# Altium schematic symbol library BigChips.SchLib: 34 symbols (part 1 of 2)
Pins are listed as number, name and electrical type; pins without a type are passive.

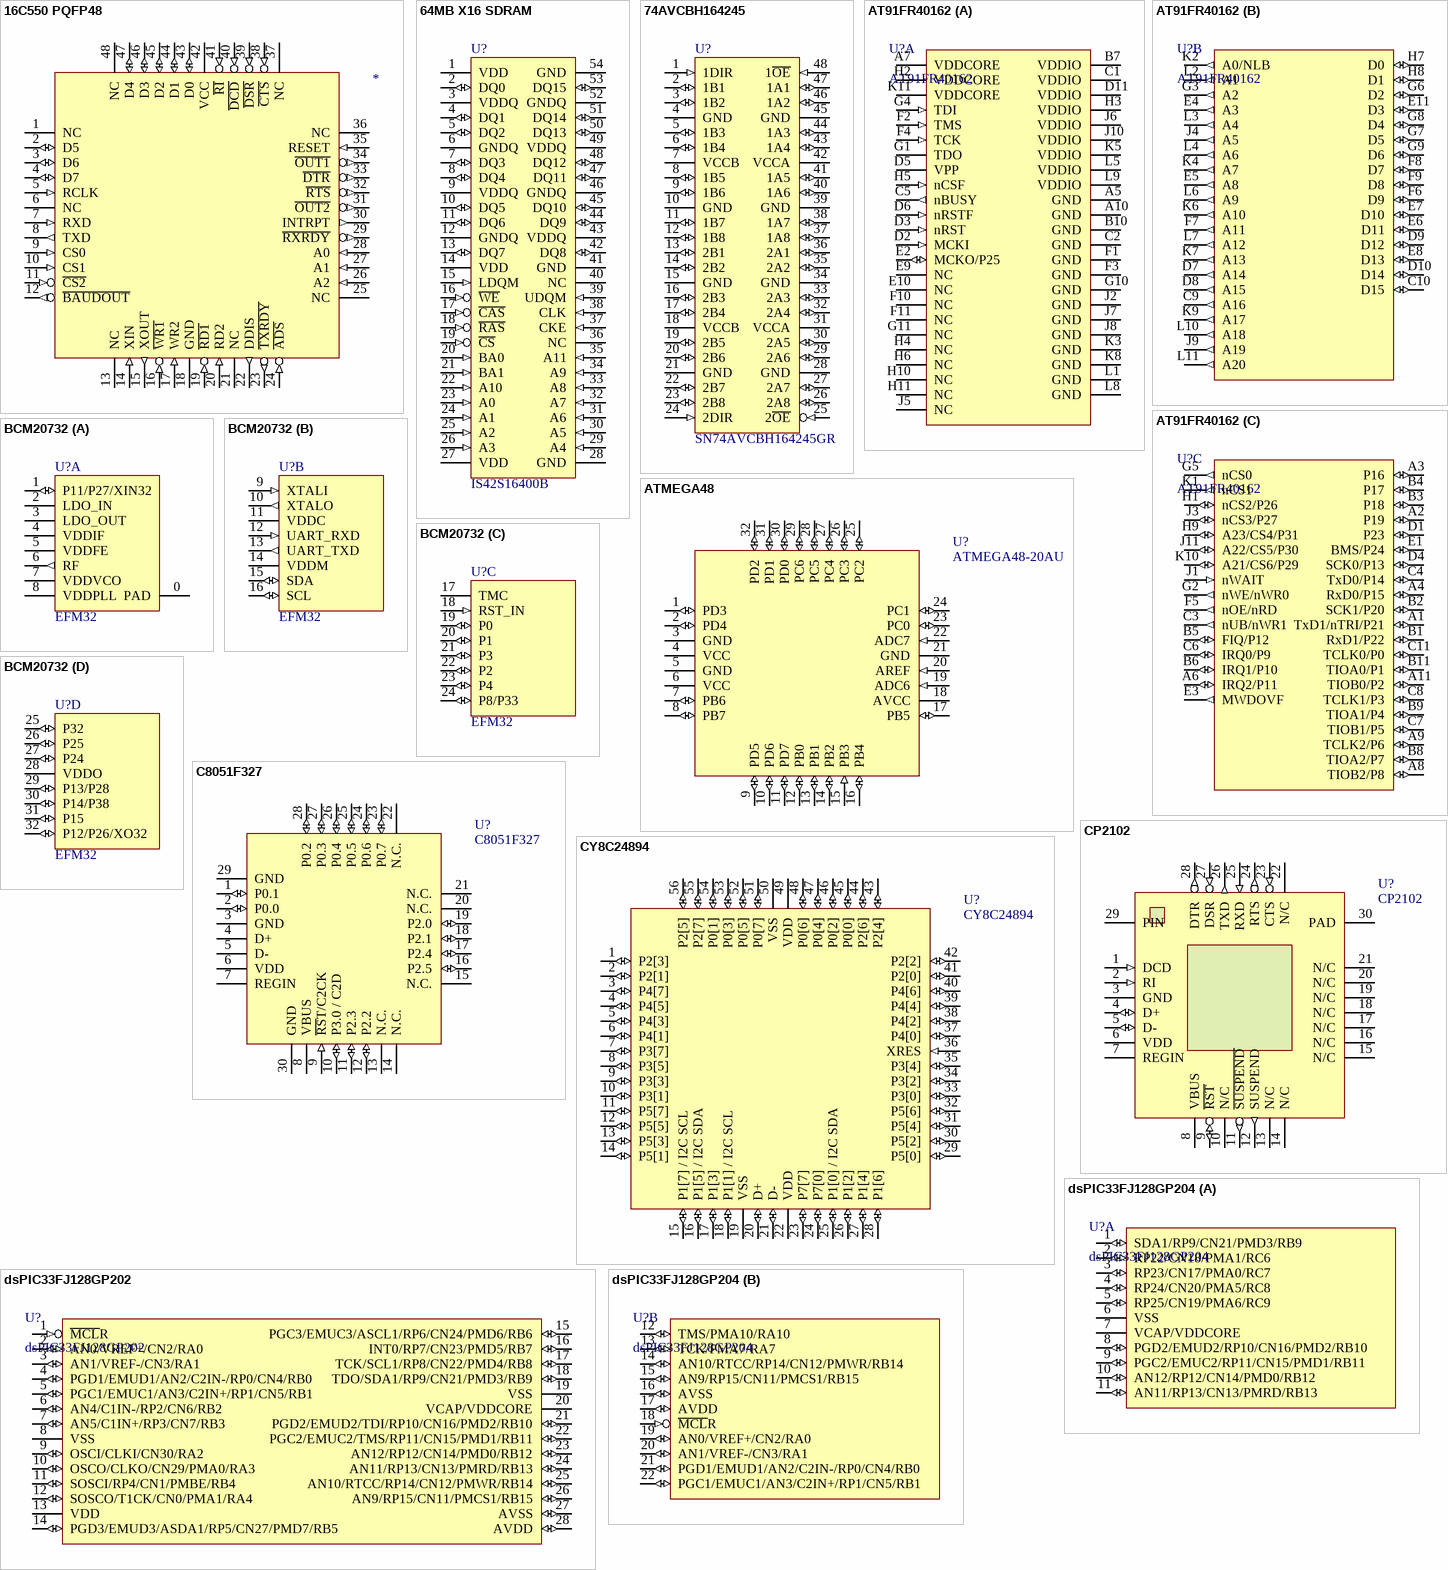
[diagram p0: symbols 16C550 PQFP48 to dsPIC33FJ128GP204]

## 16C550 PQFP48
designator ?
pins: 1 NC, 2 D5 (io), 3 D6 (io), 4 D7 (io), 5 RCLK (in), 6 NC, 7 RXD (in), 8 TXD (out), 9 CS0 (in), 10 CS1 (in), 11 ~{CS2} (in), 12 ~{BAUDOUT} (out), 13 NC, 14 XIN (in), 15 XOUT (out), 16 ~{WR1} (in), 17 WR2 (in), 18 GND (power), 19 ~{RD1} (in), 20 RD2 (in), 21 NC, 22 DDIS (out), 23 ~{TXRDY} (out), 24 ~{ADS} (in), 25 NC, 26 A2 (in), 27 A1 (in), 28 A0 (in), 29 ~{RXRDY} (out), 30 INTRPT (out), 31 ~{OUT2} (out), 32 ~{RTS} (out), 33 ~{DTR} (out), 34 ~{OUT1} (out), 35 RESET (in), 36 NC, 37 NC, 38 ~{CTS} (in), 39 ~{DSR} (in), 40 ~{DCD} (in), 41 ~{RI} (in), 42 VCC (power), 43 D0 (io), 44 D1 (io), 45 D2 (io), 46 D3 (io), 47 D4 (io), 48 NC

## 64MB X16 SDRAM
designator U?, comment IS42S16400B
PARTNO: CHP-NEW; VALUE: IS42S16400B
pins: 1 VDD (power), 2 DQ0 (io), 3 VDDQ (power), 4 DQ1 (io), 5 DQ2 (io), 6 GNDQ (power), 7 DQ3 (io), 8 DQ4 (io), 9 VDDQ (power), 10 DQ5 (io), 11 DQ6 (io), 12 GNDQ (power), 13 DQ7 (io), 14 VDD (power), 15 LDQM (in), 16 ~{WE} (in), 17 ~{CAS} (in), 18 ~{RAS} (in), 19 ~{CS} (in), 20 BA0 (in), 21 BA1 (in), 22 A10 (in), 23 A0 (in), 24 A1 (in), 25 A2 (in), 26 A3 (in), 27 VDD (power), 28 GND (power), 29 A4 (in), 30 A5 (in), 31 A6 (in), 32 A7 (in), 33 A8 (in), 34 A9 (in), 35 A11 (in), 36 NC, 37 CKE (in), 38 CLK (in), 39 UDQM (in), 40 NC, 41 GND (power), 42 DQ8 (io), 43 VDDQ (power), 44 DQ9 (io), 45 DQ10 (io), 46 GNDQ (power), 47 DQ11 (io), 48 DQ12 (io), 49 VDDQ (power), 50 DQ13 (io), 51 DQ14 (io), 52 GNDQ (power), 53 DQ15 (io), 54 GND (power)

## 74AVCBH164245
designator U?, comment SN74AVCBH164245GR
Dual Voltage Buffer; PARTNO: SN74AVCBH164245GR; VALUE: SN74AVCBH164245GR
footprint TSSOP48 (Footprint not found)
pins: 1 1DIR (in), 2 1B1 (io), 3 1B2 (io), 4 GND (power), 5 1B3 (io), 6 1B4 (io), 7 VCCB (power), 8 1B5 (io), 9 1B6 (io), 10 GND (power), 11 1B7 (io), 12 1B8 (io), 13 2B1 (io), 14 2B2 (io), 15 GND (power), 16 2B3 (io), 17 2B4 (io), 18 VCCB (power), 19 2B5 (io), 20 2B6 (io), 21 GND (power), 22 2B7 (io), 23 2B8 (io), 24 2DIR (in), 25 2~{OE} (in), 26 2A8 (io), 27 2A7 (io), 28 GND (power), 29 2A6 (io), 30 2A5 (io), 31 VCCA (power), 32 2A4 (io), 33 2A3 (io), 34 GND (power), 35 2A2 (io), 36 2A1 (io), 37 1A8 (io), 38 1A7 (io), 39 GND (power), 40 1A6 (io), 41 1A5 (io), 42 VCCA (power), 43 1A4 (io), 44 1A3 (io), 45 GND (power), 46 1A2 (io), 47 1A1 (io), 48 1~{OE} (in)

## AT91FR40162
designator U?
PARTNO: AT91FR40162S-CJ; VALUE: AT91FR40162; DK: AT91FR40162S-CJ-ND
footprint BGA121 (Footprint not found)
part A pins: A5 GND (power), A7 VDDCORE (power), A10 GND (power), B7 VDDIO (power), B10 GND (power), C1 VDDIO (power), C2 GND (power), C5 nBUSY (out), D2 MCKI (in), D3 nRST (in), D5 VPP (power), D6 nRSTF (in), D11 VDDIO (power), E2 MCKO/P25 (io), E9 NC, E10 NC, F1 GND (power), F2 TMS (in), F3 GND (power), F4 TCK (in), F10 NC, F11 NC, G1 TDO (oc), G4 TDI (in), G10 GND (power), G11 NC, H2 VDDCORE (power), H3 VDDIO (power), H4 NC, H5 nCSF (in), H6 NC, H10 NC, H11 NC, J2 GND (power), J5 NC, J6 VDDIO (power), J7 GND (power), J8 GND (power), J10 VDDIO (power), K3 GND (power), K5 VDDIO (power), K8 GND (power), K11 VDDCORE (power), L1 GND (power), L5 VDDIO (power), L8 GND (power), L9 VDDIO (power)
part B pins: C9 A16 (out), C10 D15 (io), D7 A14 (out), D8 A15 (out), D9 D12 (io), D10 D14 (io), E4 A3 (out), E5 A8 (out), E6 D11 (io), E7 D10 (io), E8 D13 (io), E11 D3 (io), F6 D9 (io), F7 A11 (out), F8 D7 (io), F9 D8 (io), G3 A2 (out), G6 D2 (io), G7 D5 (io), G8 D4 (io), G9 D6 (io), H7 D0 (io), H8 D1 (io), J4 A5 (out), J9 A19 (out), K2 A0/NLB (out), K4 A7 (out), K6 A10 (out), K7 A13 (out), K9 A17 (out), L2 A1 (out), L3 A4 (out), L4 A6 (out), L6 A9 (out), L7 A12 (out), L10 A18 (out), L11 A20 (out)
part C pins: A1 TxD1/nTRI/P21 (io), A2 P19 (io), A3 P16 (io), A4 RxD0/P15 (io), A6 IRQ2/P11 (io), A8 TIOB2/P8 (io), A9 TCLK2/P6 (io), A11 TIOB0/P2 (io), B1 RxD1/P22 (io), B2 SCK1/P20 (io), B3 P18 (io), B4 P17 (io), B5 FIQ/P12 (io), B6 IRQ1/P10 (io), B8 TIOA2/P7 (io), B9 TIOA1/P4 (io), B11 TIOA0/P1 (io), C3 nUB/nWR1 (out), C4 TxD0/P14 (io), C6 IRQ0/P9 (io), C7 TIOB1/P5 (io), C8 TCLK1/P3 (io), C11 TCLK0/P0 (io), D1 P23 (io), D4 SCK0/P13 (io), E1 BMS/P24 (io), E3 MWDOVF (out), F5 nOE/nRD (out), G2 nWE/nWR0 (out), G5 nCS0 (out), H1 nCS2/P26 (io), H9 A23/CS4/P31 (io), J1 nWAIT (in), J3 nCS3/P27 (io), J11 A22/CS5/P30 (io), K1 nCS1 (out), K10 A21/CS6/P29 (io)

## ATMEGA48
designator U?, comment ATMEGA48-20AU
ATMEGA48 CPU; PARTNO: ATMEGA48-20AU; VALUE: ATMEGA48-20AU
footprint TQFP32_010907 (Footprint not found)
pins: 1 PD3 (io), 2 PD4 (io), 3 GND (power), 4 VCC (power), 5 GND (power), 6 VCC (power), 7 PB6 (io), 8 PB7 (io), 9 PD5 (io), 10 PD6 (io), 11 PD7 (io), 12 PB0 (io), 13 PB1 (io), 14 PB2 (io), 15 PB3 (in), 16 PB4 (io), 17 PB5 (io), 18 AVCC (power), 19 ADC6 (in), 20 AREF (in), 21 GND (power), 22 ADC7 (in), 23 PC0 (io), 24 PC1 (io), 25 PC2 (io), 26 PC3 (io), 27 PC4 (io), 28 PC5 (io), 29 PC6 (io), 30 PD0 (io), 31 PD1 (io), 32 PD2 (io)

## BCM20732
designator U?, comment EFM32
VALUE: EFM32; DK: ----
footprint QFN32_033006 (SMT)
part A pins: 0 PAD (power) "GND", 1 P11/P27/XIN32 (io) "I/O", 2 LDO_IN (power) "Power", 3 LDO_OUT (power) "Power", 4 VDDIF (power) "VPLL", 5 VDDFE (power) "Power", 6 RF (out) "Output", 7 VDDVCO (power) "Power", 8 VDDPLL (power) "Power"
part B pins: 9 XTALI (in) "Crystal", 10 XTALO (out) "Crystal", 11 VDDC (power) "Power", 12 UART_RXD (in) "Rx In", 13 UART_TXD (out) "Out", 14 VDDM (power) "Power", 15 SDA (io) "I/O", 16 SCL (io) "I/O"
part C pins: 17 TMC (power) "Test", 18 RST_IN (in) "Reset", 19 P0 (io) "I/O", 20 P1 (io) "I/O", 21 P3 (io) "I/O", 22 P2 (io) "I/O", 23 P4 (io) "I/O", 24 P8/P33 (io) "I/O"
part D pins: 25 P32 (io) "I/O", 26 P25 (io) "I/O", 27 P24 (io) "I/O", 28 VDDO (power) "Power", 29 P13/P28 (io) "I/O", 30 P14/P38 (io) "I/O", 31 P15 (io) "I/O", 32 P12/P26/XO32 (io) "I/O"

## C8051F327
designator U?
SMT; PARTNO: C8051F327; VALUE: C8051F327
footprint QFN28B_xxxxxx (Footprint not found)
pins: 1 P0.1 (io) "Port0 Bit1", 2 P0.0 (io) "Port0 Bit0", 3 GND (power) "Ground", 4 D+ "USB D+", 5 D- "USB D-", 6 VDD (power) "3.3V Regulator Out", 7 REGIN (power) "+5V In", 8 VBUS (power) "USB V+", 9 ~{RS}T/C2CK (in) "Reset / Program Clock", 10 P3.0 / C2D (io) "Port3 Bit0 / Program Data", 11 P2.3 (io) "Port2 Bit3", 12 P2.2 (io) "Port2 Bit2", 13 N.C., 14 N.C., 15 N.C., 16 P2.5 (io) "Port2 Bit5", 17 P2.4 (io) "Port2 Bit4", 18 P2.1 (io) "Port2 Bit1", 19 P2.0 (io) "Port2 Bit0", 20 N.C., 21 N.C., 22 N.C., 23 P0.7 (io) "Port0 Bit7", 24 P0.6 (io) "Port0 Bit6", 25 P0.5 (io) "Port0 Bit5", 26 P0.4 (io) "Port0 Bit4", 27 P0.3 (io) "Port0 Bit3", 28 P0.2 (io) "Port0 Bit2", 29 GND (power) "Reference Pin", 30 GND (power) "HeatSink Pad"

## CP2102
designator U?
PARTNO: CP2102; VALUE: CP2102
footprint QFN28_2_110906 (Footprint not found)
pins: 1 DCD (in), 2 RI (in), 3 GND (power), 4 D+ (io), 5 D- (io), 6 VDD (power), 7 REGIN (power), 8 VBUS (power), 9 ~{RST} (io), 10 N/C, 11 ~{SUSPEND} (out), 12 SUSPEND (out), 13 N/C, 14 N/C, 15 N/C, 16 N/C, 17 N/C, 18 N/C, 19 N/C, 20 N/C, 21 N/C, 22 N/C, 23 CTS (in), 24 RTS (out), 25 RXD (in), 26 TXD (out), 27 DSR (in), 28 DTR (out), 29 PIN (power), 30 PAD (power)

## CY8C24894
designator U?
PARTNO: CY8C24894; VALUE: CY8C24894
footprint DFN56 (Footprint not found)
pins: 1 P2[3] (io) "Analog/Digital I/O", 2 P2[1] (io) "Analog/Digital I/O", 3 P4[7] (io) "Digital I/O", 4 P4[5] (io) "Digital I/O", 5 P4[3] (io) "Digital I/O", 6 P4[1] (io) "Digital I/O", 7 P3[7] (io) "Digital I/O", 8 P3[5] (io) "Digital I/O", 9 P3[3] (io) "Digital I/O", 10 P3[1] (io) "Digital I/O", 11 P5[7] (io) "Digital I/O", 12 P5[5] (io) "Digital I/O", 13 P5[3] (io) "Digital I/O", 14 P5[1] (io) "Digital I/O", 15 P1[7] / I2C SCL (io) "Digital I/O", 16 P1[5] / I2C SDA (io) "Digital I/O", 17 P1[3] (io) "Digital I/O", 18 P1[1] / I2C SCL (io) "Digital I/O", 19 VSS (power) "GND", 20 D+ (io) "USB D+", 21 D- (io) "USB D-", 22 VDD (power) "V+", 23 P7[7] (io) "Digital I/O", 24 P7[0] (io) "Digital I/O", 25 P1[0] / I2C SDA (io) "Digital I/O", 26 P1[2] (io) "Digital I/O", 27 P1[4] (io) "Digital I/O", 28 P1[6] (io) "Digital I/O", 29 P5[0] (io) "Digital I/O", 30 P5[2] (io) "Digital I/O", 31 P5[4] (io) "Digital I/O", 32 P5[6] (io) "Digital I/O", 33 P3[0] (io) "Digital I/O", 34 P3[2] (io) "Digital I/O", 35 P3[4] (io) "Digital I/O", 36 XRES (in) "Reset", 37 P4[0] (io) "Digital I/O", 38 P4[2] (io) "Digital I/O", 39 P4[4] (io) "Digital I/O", 40 P4[6] (io) "Digital I/O", 41 P2[0] (io) "Digital I/O", 42 P2[2] (io) "Digital I/O", 43 P2[4] (io) "Digital I/O", 44 P2[6] (io) "Digital I/O", 45 P0[0] (io) "Analog / Digital I/O", 46 P0[2] (io) "Analog / Digital I/O", 47 P0[4] (io) "Analog / Digital I/O", 48 P0[6] (io) "Analog / Digital I/O", 49 VDD (power) "V+", 50 VSS (power) "GND", 51 P0[7] (io) "Analog / Digital I/O", 52 P0[5] (io) "Analog / Digital I/O", 53 P0[3] (io) "Analog / Digital I/O", 54 P0[1] (io) "Analog / Digital I/O", 55 P2[7] (io) "Digital I/O", 56 P2[5] (io) "Digital I/O"

## dsPIC33FJ128GP202
designator U?
PARTNO: dsPIC33FJ128GP202-I/SO; VALUE: dsPIC33FJ128GP202; DK: N/A
footprint SO28_030205 (SMT)
pins: 1 ~{MCL}R (in) "Reset", 2 AN0/VREF+/CN2/RA0 (io) "Port", 3 AN1/VREF-/CN3/RA1 (io) "Port", 4 PGD1/EMUD1/AN2/C2IN-/RP0/CN4/RB0 (io) "Port", 5 PGC1/EMUC1/AN3/C2IN+/RP1/CN5/RB1 (io) "Port", 6 AN4/C1IN-/RP2/CN6/RB2 (io) "Port", 7 AN5/C1IN+/RP3/CN7/RB3   (io) "Port", 8 VSS   (power) "GND", 9 OSCI/CLKI/CN30/RA2 (io) "Port", 10 OSCO/CLKO/CN29/PMA0/RA3 (io) "Port", 11 SOSCI/RP4/CN1/PMBE/RB4 (io) "Port", 12 SOSCO/T1CK/CN0/PMA1/RA4 (io) "Port", 13 VDD (power), 14 PGD3/EMUD3/ASDA1/RP5/CN27/PMD7/RB5 (io) "Port", 15 PGC3/EMUC3/ASCL1/RP6/CN24/PMD6/RB6 (io) "Port", 16 INT0/RP7/CN23/PMD5/RB7 (io) "Port", 17 TCK/SCL1/RP8/CN22/PMD4/RB8 (io) "Port", 18 TDO/SDA1/RP9/CN21/PMD3/RB9 (io) "Port", 19 VSS (power) "GND", 20 VCAP/VDDCORE "FILTER", 21 PGD2/EMUD2/TDI/RP10/CN16/PMD2/RB10 (io) "Port", 22 PGC2/EMUC2/TMS/RP11/CN15/PMD1/RB11 (io) "Port", 23 AN12/RP12/CN14/PMD0/RB12 (io) "Port", 24 AN11/RP13/CN13/PMRD/RB13 (io) "Port", 25 AN10/RTCC/RP14/CN12/PMWR/RB14 (io) "Port", 26 AN9/RP15/CN11/PMCS1/RB15 (io) "Port", 27 AVSS (io) "Port", 28 AVDD (io) "Port"

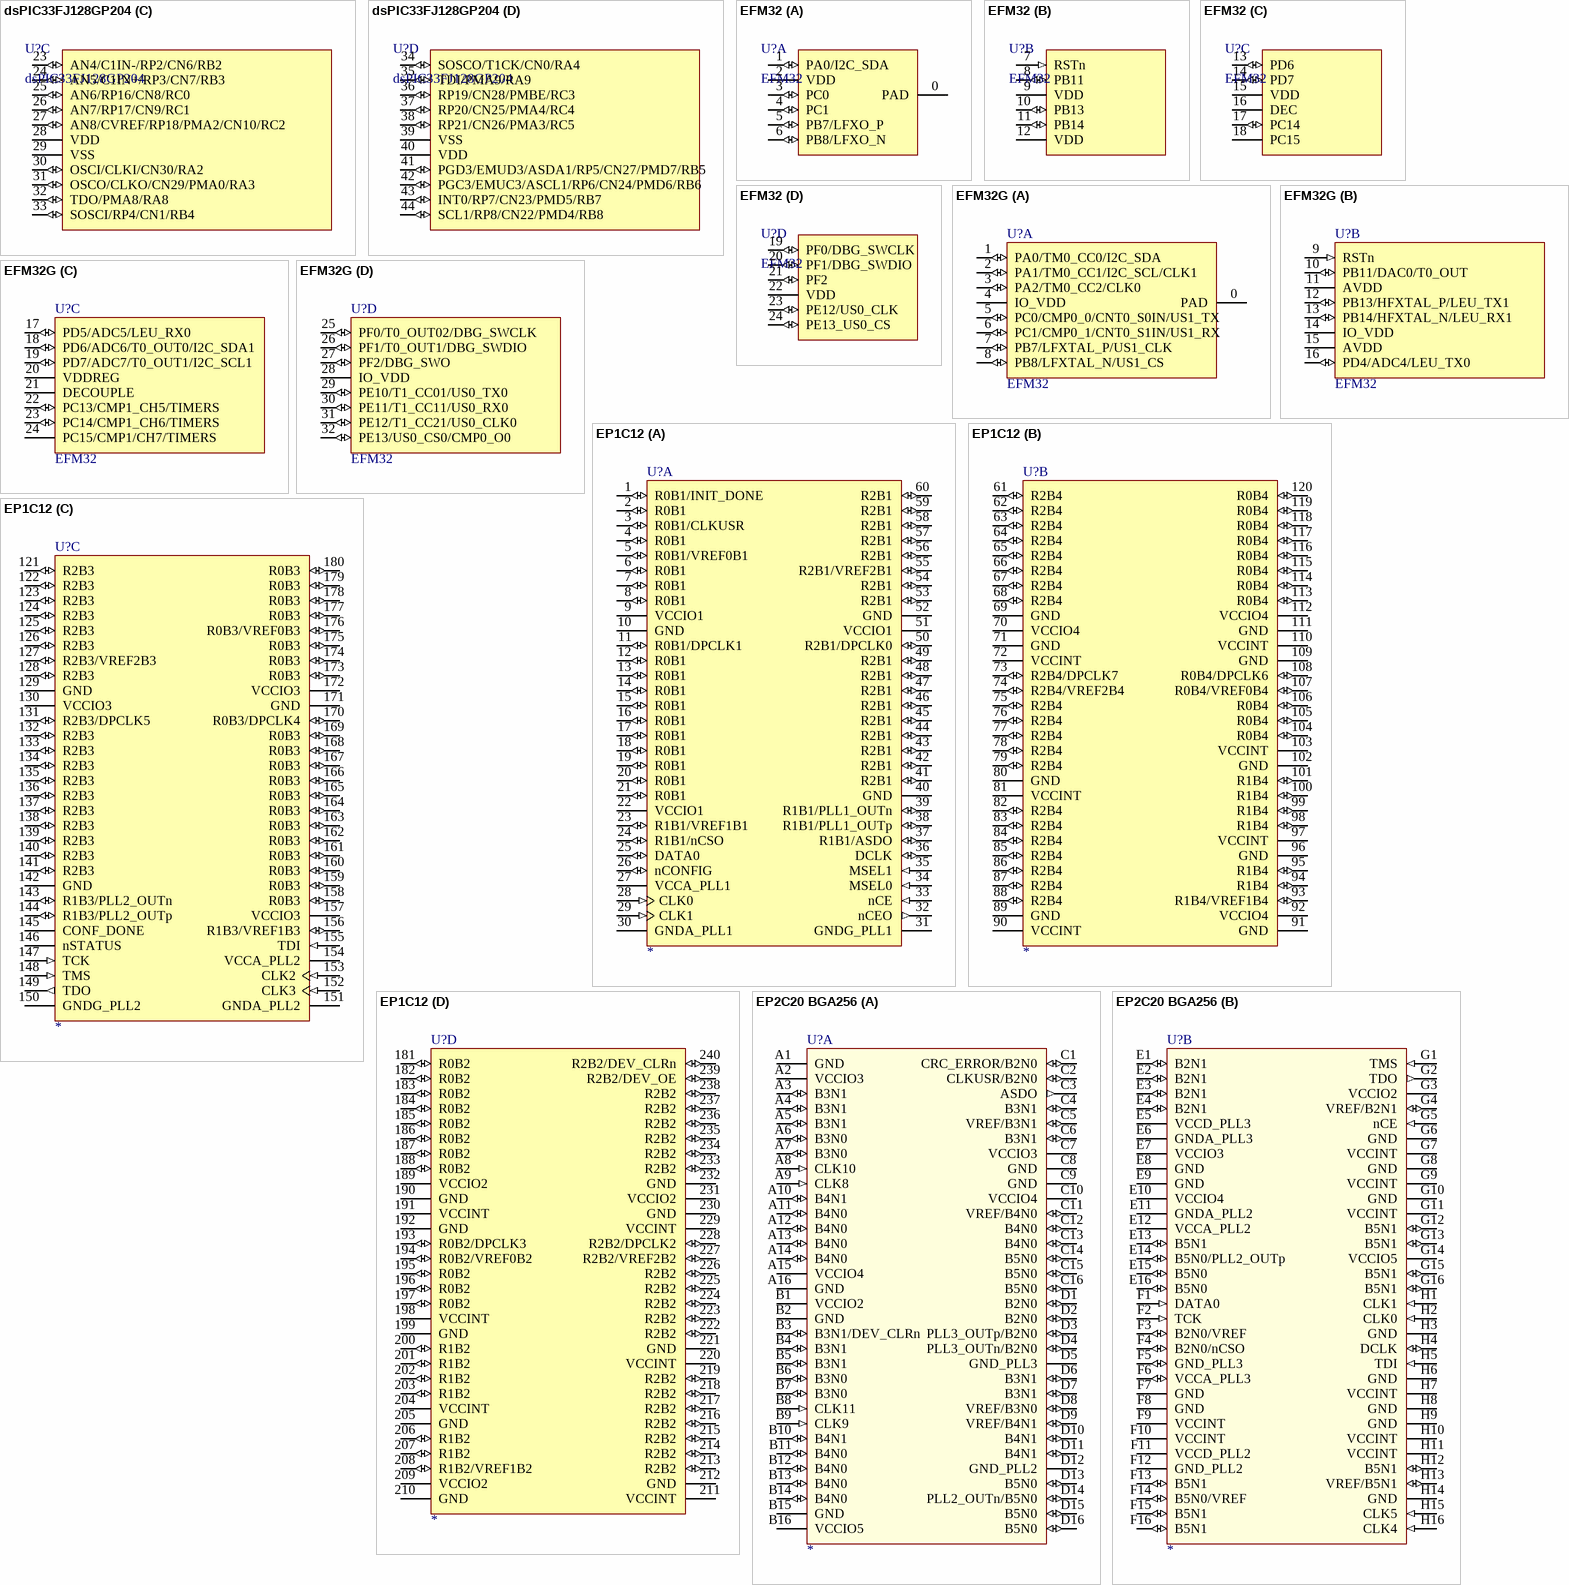
[diagram p1: symbols dsPIC33FJ128GP204 to EP2C20 BGA256]

## dsPIC33FJ128GP204
designator U?
PARTNO: DSPIC33FJ128GP204-I/PT; VALUE: dsPIC33FJ128GP204; DK: N/A
footprint QFN_TQFP44_071508 (Footprint not found)
part A pins: 1 SDA1/RP9/CN21/PMD3/RB9 (io) "Port", 2 RP22/CN18/PMA1/RC6 (io), 3 RP23/CN17/PMA0/RC7 (io), 4 RP24/CN20/PMA5/RC8 (io), 5 RP25/CN19/PMA6/RC9 (io), 6 VSS (power) "GND", 7 VCAP/VDDCORE "FILTER", 8 PGD2/EMUD2/RP10/CN16/PMD2/RB10 (io) "Port", 9 PGC2/EMUC2/RP11/CN15/PMD1/RB11 (io) "Port", 10 AN12/RP12/CN14/PMD0/RB12 (io) "Port", 11 AN11/RP13/CN13/PMRD/RB13 (io) "Port"
part B pins: 12 TMS/PMA10/RA10 (io), 13 TCK/PMA7/RA7 (io), 14 AN10/RTCC/RP14/CN12/PMWR/RB14 (io) "Port", 15 AN9/RP15/CN11/PMCS1/RB15 (io) "Port", 16 AVSS (io) "Port", 17 AVDD (io) "Port", 18 ~{MCL}R (in) "Reset", 19 AN0/VREF+/CN2/RA0 (io) "Port", 20 AN1/VREF-/CN3/RA1 (io) "Port", 21 PGD1/EMUD1/AN2/C2IN-/RP0/CN4/RB0 (io) "Port", 22 PGC1/EMUC1/AN3/C2IN+/RP1/CN5/RB1 (io) "Port"
part C pins: 23 AN4/C1IN-/RP2/CN6/RB2 (io) "Port", 24 AN5/C1IN+/RP3/CN7/RB3   (io) "Port", 25 AN6/RP16/CN8/RC0 (io), 26 AN7/RP17/CN9/RC1 (io), 27 AN8/CVREF/RP18/PMA2/CN10/RC2 (io), 28 VDD (power), 29 VSS (power), 30 OSCI/CLKI/CN30/RA2 (io) "Port", 31 OSCO/CLKO/CN29/PMA0/RA3 (io) "Port", 32 TDO/PMA8/RA8 (io), 33 SOSCI/RP4/CN1/RB4 (io) "Port"
part D pins: 34 SOSCO/T1CK/CN0/RA4 (io) "Port", 35 TDI/PMA9/RA9 (io), 36 RP19/CN28/PMBE/RC3 (io), 37 RP20/CN25/PMA4/RC4 (io), 38 RP21/CN26/PMA3/RC5 (io), 39 VSS   (power) "GND", 40 VDD (power), 41 PGD3/EMUD3/ASDA1/RP5/CN27/PMD7/RB5 (io) "Port", 42 PGC3/EMUC3/ASCL1/RP6/CN24/PMD6/RB6 (io) "Port", 43 INT0/RP7/CN23/PMD5/RB7 (io) "Port", 44 SCL1/RP8/CN22/PMD4/RB8 (io) "Port"

## EFM32
designator U?
VALUE: EFM32; DK: ----
part A pins: 0 PAD (power) "Heat Sink / VSS", 1 PA0/I2C_SDA (io) "I/O", 2 VDD (power) "Regulated Output", 3 PC0 (io) "I/O", 4 PC1 (io) "I/O", 5 PB7/LFXO_P (io) "I/O", 6 PB8/LFXO_N (io) "I/O"
part B pins: 7 RSTn (in) "Reset", 8 PB11 (io) "I/O", 9 VDD (power) "V+", 10 PB13 (io) "I/O", 11 PB14 (io) "I/O", 12 VDD (power) "V+"
part C pins: 13 PD6 (io) "I/O", 14 PD7 (io) "I/O", 15 VDD (power) "V+", 16 DEC "Decouple", 17 PC14 (io) "I/O", 18 PC15 (power) "V+"
part D pins: 19 PF0/DBG_SWCLK (io) "I/O", 20 PF1/DBG_SWDIO (io) "I/O", 21 PF2 (io) "I/O", 22 VDD (power) "V+", 23 PE12/US0_CLK (io) "I/O", 24 PE13_US0_CS (io) "I/O"

## EFM32G
designator U?, comment EFM32
VALUE: EFM32; DK: ----
footprint QFN32_033006 (SMT)
part A pins: 0 PAD (power) "Heat Sink / VSS", 1 PA0/TM0_CC0/I2C_SDA (io) "I/O", 2 PA1/TM0_CC1/I2C_SCL/CLK1 (io) "I/O", 3 PA2/TM0_CC2/CLK0 (io) "I/O", 4 IO_VDD (power) "+V", 5 PC0/CMP0_0/CNT0_S0IN/US1_TX (io) "I/O", 6 PC1/CMP0_1/CNT0_S1IN/US1_RX (io) "I/O", 7 PB7/LFXTAL_P/US1_CLK (io) "I/O", 8 PB8/LFXTAL_N/US1_CS (io) "I/O"
part B pins: 9 RSTn (in) "Reset", 10 PB11/DAC0/T0_OUT (io) "I/O", 11 AVDD (power) "V+", 12 PB13/HFXTAL_P/LEU_TX1 (io) "I/O", 13 PB14/HFXTAL_N/LEU_RX1 (io) "I/O", 14 IO_VDD (power) "V+", 15 AVDD (power) "+V", 16 PD4/ADC4/LEU_TX0 (io) "I/O"
part C pins: 17 PD5/ADC5/LEU_RX0 (io) "I/O", 18 PD6/ADC6/T0_OUT0/I2C_SDA1 (io) "I/O", 19 PD7/ADC7/T0_OUT1/I2C_SCL1 (io) "I/O", 20 VDDREG (power) "Supply for Internal Regulator", 21 DECOUPLE "Regulator filter", 22 PC13/CMP1_CH5/TIMERS (io) "I/O", 23 PC14/CMP1_CH6/TIMERS (io) "I/O", 24 PC15/CMP1/CH7/TIMERS
part D pins: 25 PF0/T0_OUT02/DBG_SWCLK (io) "I/O", 26 PF1/T0_OUT1/DBG_SWDIO (io) "I/O", 27 PF2/DBG_SWO (io) "I/O", 28 IO_VDD (power) "V+", 29 PE10/T1_CC01/US0_TX0 (io) "I/O", 30 PE11/T1_CC11/US0_RX0 (io) "I/O", 31 PE12/T1_CC21/US0_CLK0 (io) "I/O", 32 PE13/US0_CS0/CMP0_O0 (io) "I/O"

## EP1C12
designator U?
Cyclone Gate Array; PARTNO: NEW; VALUE: *
footprint PQFP240_030305 (SMT FP)
part A pins: 1 R0B1/INIT_DONE (io), 2 R0B1 (io), 3 R0B1/CLKUSR (io), 4 R0B1 (io), 5 R0B1/VREF0B1 (io), 6 R0B1 (io), 7 R0B1 (io), 8 R0B1 (io), 9 VCCIO1 (power), 10 GND (power), 11 R0B1/DPCLK1 (io), 12 R0B1 (io), 13 R0B1 (io), 14 R0B1 (io), 15 R0B1 (io), 16 R0B1 (io), 17 R0B1 (io), 18 R0B1 (io), 19 R0B1 (io), 20 R0B1 (io), 21 R0B1 (io), 22 VCCIO1 (power), 23 R1B1/VREF1B1 (io), 24 R1B1/nCSO (io), 25 DATA0 (io), 26 nCONFIG (io), 27 VCCA_PLL1 (power), 28 CLK0 (in), 29 CLK1 (in), 30 GNDA_PLL1 (power), 31 GNDG_PLL1 (power), 32 nCEO (out), 33 nCE (in), 34 MSEL0 (in), 35 MSEL1 (in), 36 DCLK (io), 37 R1B1/ASDO (io), 38 R1B1/PLL1_OUTp (io), 39 R1B1/PLL1_OUTn (io), 40 GND (power), 41 R2B1 (io), 42 R2B1 (io), 43 R2B1 (io), 44 R2B1 (io), 45 R2B1 (io), 46 R2B1 (io), 47 R2B1 (io), 48 R2B1 (io), 49 R2B1 (io), 50 R2B1/DPCLK0 (io), 51 VCCIO1 (power), 52 GND (power), 53 R2B1 (io), 54 R2B1 (io), 55 R2B1/VREF2B1 (io), 56 R2B1 (io), 57 R2B1 (io), 58 R2B1 (io), 59 R2B1 (io), 60 R2B1 (io)
part B pins: 61 R2B4 (io), 62 R2B4 (io), 63 R2B4 (io), 64 R2B4 (io), 65 R2B4 (io), 66 R2B4 (io), 67 R2B4 (io), 68 R2B4 (io), 69 GND (power), 70 VCCIO4 (power), 71 GND (power), 72 VCCINT (power), 73 R2B4/DPCLK7 (io), 74 R2B4/VREF2B4 (io), 75 R2B4 (io), 76 R2B4 (io), 77 R2B4 (io), 78 R2B4 (io), 79 R2B4 (io), 80 GND (power), 81 VCCINT (power), 82 R2B4 (io), 83 R2B4 (io), 84 R2B4 (io), 85 R2B4 (io), 86 R2B4 (io), 87 R2B4 (io), 88 R2B4 (io), 89 GND (power), 90 VCCINT (power), 91 GND (power), 92 VCCIO4 (power), 93 R1B4/VREF1B4 (io), 94 R1B4 (io), 95 R1B4 (io), 96 GND (power), 97 VCCINT (power), 98 R1B4 (io), 99 R1B4 (io), 100 R1B4 (io), 101 R1B4 (io), 102 GND (power), 103 VCCINT (power), 104 R0B4 (io), 105 R0B4 (io), 106 R0B4 (io), 107 R0B4/VREF0B4 (io), 108 R0B4/DPCLK6 (io), 109 GND (power), 110 VCCINT (power), 111 GND (power), 112 VCCIO4 (power), 113 R0B4 (io), 114 R0B4 (io), 115 R0B4 (io), 116 R0B4 (io), 117 R0B4 (io), 118 R0B4 (io), 119 R0B4 (io), 120 R0B4 (io)
part C pins: 121 R2B3 (io), 122 R2B3 (io), 123 R2B3 (io), 124 R2B3 (io), 125 R2B3 (io), 126 R2B3 (io), 127 R2B3/VREF2B3 (io), 128 R2B3 (io), 129 GND (power), 130 VCCIO3 (power), 131 R2B3/DPCLK5 (io), 132 R2B3 (io), 133 R2B3 (io), 134 R2B3 (io), 135 R2B3 (io), 136 R2B3 (io), 137 R2B3 (io), 138 R2B3 (io), 139 R2B3 (io), 140 R2B3 (io), 141 R2B3 (io), 142 GND (power), 143 R1B3/PLL2_OUTn (io), 144 R1B3/PLL2_OUTp (io), 145 CONF_DONE (oc), 146 nSTATUS (oc), 147 TCK (in), 148 TMS (in), 149 TDO (out), 150 GNDG_PLL2 (power), 151 GNDA_PLL2 (power), 152 CLK3 (in), 153 CLK2 (in), 154 VCCA_PLL2 (power), 155 TDI (in), 156 R1B3/VREF1B3 (io), 157 VCCIO3 (power), 158 R0B3 (io), 159 R0B3 (io), 160 R0B3 (io), 161 R0B3 (io), 162 R0B3 (io), 163 R0B3 (io), 164 R0B3 (io), 165 R0B3 (io), 166 R0B3 (io), 167 R0B3 (io), 168 R0B3 (io), 169 R0B3 (io), 170 R0B3/DPCLK4 (io), 171 GND (power), 172 VCCIO3 (power), 173 R0B3 (io), 174 R0B3 (io), 175 R0B3 (io), 176 R0B3/VREF0B3 (io), 177 R0B3 (io), 178 R0B3 (io), 179 R0B3 (io), 180 R0B3 (io)
part D pins: 181 R0B2 (io), 182 R0B2 (io), 183 R0B2 (io), 184 R0B2 (io), 185 R0B2 (io), 186 R0B2 (io), 187 R0B2 (io), 188 R0B2 (io), 189 VCCIO2 (power), 190 GND (power), 191 VCCINT (power), 192 GND (power), 193 R0B2/DPCLK3 (io), 194 R0B2/VREF0B2 (io), 195 R0B2 (io), 196 R0B2 (io), 197 R0B2 (io), 198 VCCINT (power), 199 GND (power), 200 R1B2 (io), 201 R1B2 (io), 202 R1B2 (io), 203 R1B2 (io), 204 VCCINT (power), 205 GND (power), 206 R1B2 (io), 207 R1B2 (io), 208 R1B2/VREF1B2 (io), 209 VCCIO2 (power), 210 GND (power), 211 VCCINT (power), 212 GND (power), 213 R2B2 (io), 214 R2B2 (io), 215 R2B2 (io), 216 R2B2 (io), 217 R2B2 (io), 218 R2B2 (io), 219 R2B2 (io), 220 VCCINT (power), 221 GND (power), 222 R2B2 (io), 223 R2B2 (io), 224 R2B2 (io), 225 R2B2 (io), 226 R2B2 (io), 227 R2B2/VREF2B2 (io), 228 R2B2/DPCLK2 (io), 229 VCCINT (power), 230 GND (power), 231 VCCIO2 (power), 232 GND (power), 233 R2B2 (io), 234 R2B2 (io), 235 R2B2 (io), 236 R2B2 (io), 237 R2B2 (io), 238 R2B2 (io), 239 R2B2/DEV_OE (io), 240 R2B2/DEV_CLRn (io)

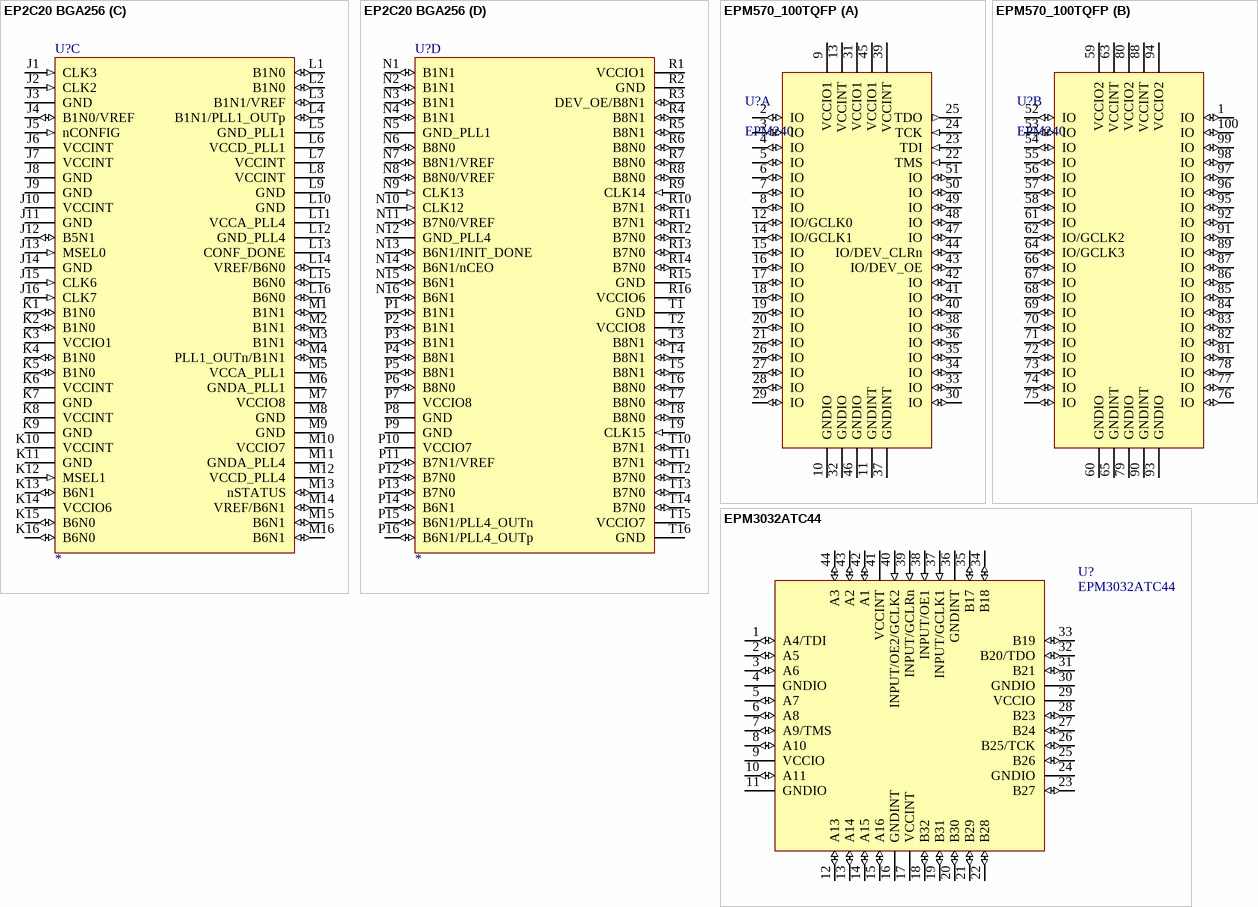
[diagram p2: symbols EP2C20 BGA256 to EPM3032ATC44]

## EP2C20 BGA256
designator U?
Cyclone Gate Array; PART NO: NEW; VALUE: *
footprint PQFP240_030305 (SMT FP)
part A pins: A1 GND (power), A2 VCCIO3 (power), A3 B3N1 (io), A4 B3N1 (io), A5 B3N1 (io), A6 B3N0 (io), A7 B3N0 (io), A8 CLK10 (in), A9 CLK8 (in), A10 B4N1 (io), A11 B4N0 (io), A12 B4N0 (io), A13 B4N0 (io), A14 B4N0 (io), A15 VCCIO4 (power), A16 GND (power), B1 VCCIO2 (power), B2 GND (power), B3 B3N1/DEV_CLRn (io), B4 B3N1 (io), B5 B3N1 (io), B6 B3N0 (io), B7 B3N0 (io), B8 CLK11 (in), B9 CLK9 (in), B10 B4N1 (io), B11 B4N0 (io), B12 B4N0 (io), B13 B4N0 (io), B14 B4N0 (io), B15 GND (power), B16 VCCIO5 (power), C1 CRC_ERROR/B2N0 (io), C2 CLKUSR/B2N0 (io), C3 ASDO (out), C4 B3N1 (io), C5 VREF/B3N1 (io), C6 B3N1 (io), C7 VCCIO3 (power), C8 GND (power), C9 GND (power), C10 VCCIO4 (power), C11 VREF/B4N0 (io), C12 B4N0 (io), C13 B4N0 (io), C14 B5N0 (io), C15 B5N0 (io), C16 B5N0 (io), D1 B2N0 (io), D2 B2N0 (io), D3 PLL3_OUTp/B2N0 (io), D4 PLL3_OUTn/B2N0 (io), D5 GND_PLL3 (power), D6 B3N1 (io), D7 B3N1 (io), D8 VREF/B3N0 (io), D9 VREF/B4N1 (io), D10 B4N1 (io), D11 B4N1 (io), D12 GND_PLL2 (power), D13 B5N0 (io), D14 PLL2_OUTn/B5N0 (io), D15 B5N0 (io), D16 B5N0 (io)
part B pins: E1 B2N1 (io), E2 B2N1 (io), E3 B2N1 (io), E4 B2N1 (io), E5 VCCD_PLL3 (power), E6 GNDA_PLL3 (power), E7 VCCIO3 (power), E8 GND (power), E9 GND (power), E10 VCCIO4 (power), E11 GNDA_PLL2 (power), E12 VCCA_PLL2 (power), E13 B5N1 (io), E14 B5N0/PLL2_OUTp (io), E15 B5N0 (io), E16 B5N0 (io), F1 DATA0 (in), F2 TCK (in), F3 B2N0/VREF (io), F4 B2N0/nCSO (io), F5 GND_PLL3 (io), F6 VCCA_PLL3 (io), F7 GND (power), F8 GND (power), F9 VCCINT (power), F10 VCCINT (power), F11 VCCD_PLL2 (power), F12 GND_PLL2 (power), F13 B5N1 (io), F14 B5N0/VREF (io), F15 B5N1 (io), F16 B5N1 (io), G1 TMS (in), G2 TDO (out), G3 VCCIO2 (power), G4 VREF/B2N1 (io), G5 nCE (in), G6 GND (power), G7 VCCINT (power), G8 GND (power), G9 VCCINT (power), G10 GND (power), G11 VCCINT (power), G12 B5N1 (io), G13 B5N1 (io), G14 VCCIO5 (power), G15 B5N1 (io), G16 B5N1 (io), H1 CLK1 (in), H2 CLK0 (in), H3 GND (power), H4 DCLK (io), H5 TDI (in), H6 GND (power), H7 VCCINT (power), H8 GND (power), H9 GND (power), H10 VCCINT (power), H11 VCCINT (power), H12 B5N1 (io), H13 VREF/B5N1 (io), H14 GND (power), H15 CLK5 (in), H16 CLK4 (in)
part C pins: J1 CLK3 (in), J2 CLK2 (in), J3 GND (power), J4 B1N0/VREF (io), J5 nCONFIG (in), J6 VCCINT (power), J7 VCCINT (power), J8 GND (power), J9 GND (power), J10 VCCINT (power), J11 GND (power), J12 B5N1 (io), J13 MSEL0 (in), J14 GND (power), J15 CLK6 (in), J16 CLK7 (in), K1 B1N0 (io), K2 B1N0 (io), K3 VCCIO1 (power), K4 B1N0 (io), K5 B1N0 (io), K6 VCCINT (power), K7 GND (power), K8 VCCINT (power), K9 GND (power), K10 VCCINT (power), K11 GND (power), K12 MSEL1 (in), K13 B6N1 (io), K14 VCCIO6 (power), K15 B6N0 (io), K16 B6N0 (io), L1 B1N0 (io), L2 B1N0 (io), L3 B1N1/VREF (io), L4 B1N1/PLL1_OUTp (io), L5 GND_PLL1 (power), L6 VCCD_PLL1 (power), L7 VCCINT (power), L8 VCCINT (power), L9 GND (power), L10 GND (power), L11 VCCA_PLL4 (power), L12 GND_PLL4 (power), L13 CONF_DONE (oc), L14 VREF/B6N0 (io), L15 B6N0 (io), L16 B6N0 (io), M1 B1N1 (io), M2 B1N1 (io), M3 B1N1 (io), M4 PLL1_OUTn/B1N1 (io), M5 VCCA_PLL1 (power), M6 GNDA_PLL1 (power), M7 VCCIO8 (power), M8 GND (power), M9 GND (power), M10 VCCIO7 (power), M11 GNDA_PLL4 (power), M12 VCCD_PLL4 (power), M13 nSTATUS (io), M14 VREF/B6N1 (io), M15 B6N1 (io), M16 B6N1 (io)
part D pins: N1 B1N1 (io), N2 B1N1 (io), N3 B1N1 (io), N4 B1N1 (io), N5 GND_PLL1 (power), N6 B8N0 (io), N7 B8N1/VREF (io), N8 B8N0/VREF (io), N9 CLK13 (in), N10 CLK12 (in), N11 B7N0/VREF (io), N12 GND_PLL4 (power), N13 B6N1/INIT_DONE (io), N14 B6N1/nCEO (io), N15 B6N1 (io), N16 B6N1 (io), P1 B1N1 (io), P2 B1N1 (io), P3 B1N1 (io), P4 B8N1 (io), P5 B8N1 (io), P6 B8N0 (io), P7 VCCIO8 (power), P8 GND (power), P9 GND (power), P10 VCCIO7 (power), P11 B7N1/VREF (io), P12 B7N0 (io), P13 B7N0 (io), P14 B6N1 (io), P15 B6N1/PLL4_OUTn (io), P16 B6N1/PLL4_OUTp (io), R1 VCCIO1 (power), R2 GND (power), R3 DEV_OE/B8N1 (io), R4 B8N1 (io), R5 B8N1 (io), R6 B8N0 (io), R7 B8N0 (io), R8 B8N0 (io), R9 CLK14 (in), R10 B7N1 (io), R11 B7N1 (io), R12 B7N0 (io), R13 B7N0 (io), R14 B7N0 (io), R15 GND (power), R16 VCCIO6 (power), T1 GND (power), T2 VCCIO8 (power), T3 B8N1 (io), T4 B8N1 (io), T5 B8N1 (io), T6 B8N0 (io), T7 B8N0 (io), T8 B8N0 (io), T9 CLK15 (in), T10 B7N1 (io), T11 B7N1 (io), T12 B7N0 (io), T13 B7N0 (io), T14 B7N0 (io), T15 VCCIO7 (power), T16 GND (power)

## EPM570_100TQFP
designator U?, comment EPM240
PARTNO: EPM240; VALUE: EPM240
footprint TQFP100_030305 (SM FP)
part A pins: 2 IO (io), 3 IO (io), 4 IO (io), 5 IO (io), 6 IO (io), 7 IO (io), 8 IO (io), 9 VCCIO1 (power), 10 GNDIO (power), 11 GNDINT (power), 12 IO/GCLK0 (io), 13 VCCINT (power), 14 IO/GCLK1 (io), 15 IO (io), 16 IO (io), 17 IO (io), 18 IO (io), 19 IO (io), 20 IO (io), 21 IO (io), 22 TMS (in), 23 TDI (in), 24 TCK (in), 25 TDO (out), 26 IO (io), 27 IO (io), 28 IO (io), 29 IO (io), 30 IO (io), 31 VCCIO1 (power), 32 GNDIO (power), 33 IO (io), 34 IO (io), 35 IO (io), 36 IO (io), 37 GNDINT (power), 38 IO (io), 39 VCCINT (power), 40 IO (io), 41 IO (io), 42 IO (io), 43 IO/DEV_OE (io), 44 IO/DEV_CLRn (io), 45 VCCIO1 (power), 46 GNDIO (power), 47 IO (io), 48 IO (io), 49 IO (io), 50 IO (io), 51 IO (io)
part B pins: 1 IO (io), 52 IO (io), 53 IO (io), 54 IO (io), 55 IO (io), 56 IO (io), 57 IO (io), 58 IO (io), 59 VCCIO2 (power), 60 GNDIO (power), 61 IO (io), 62 IO/GCLK2 (io), 63 VCCINT (power), 64 IO/GCLK3 (io), 65 GNDINT (power), 66 IO (io), 67 IO (io), 68 IO (io), 69 IO (io), 70 IO (io), 71 IO (io), 72 IO (io), 73 IO (io), 74 IO (io), 75 IO (io), 76 IO (io), 77 IO (io), 78 IO (io), 79 GNDIO (power), 80 VCCIO2 (power), 81 IO (io), 82 IO (io), 83 IO (io), 84 IO (io), 85 IO (io), 86 IO (io), 87 IO (io), 88 VCCINT (power), 89 IO (io), 90 GNDINT (power), 91 IO (io), 92 IO (io), 93 GNDIO (power), 94 VCCIO2 (power), 95 IO (io), 96 IO (io), 97 IO (io), 98 IO (io), 99 IO (io), 100 IO (io)

## EPM3032ATC44
designator U?
PARTNO: EPM3032ATC44; VALUE: EPM3032ATC44
footprint PQFP44
pins: 1 A4/TDI (io), 2 A5 (io), 3 A6 (io), 4 GNDIO (power), 5 A7 (io), 6 A8 (io), 7 A9/TMS (io), 8 A10 (io), 9 VCCIO (power), 10 A11 (io), 11 GNDIO (power), 12 A13 (io), 13 A14 (io), 14 A15 (io), 15 A16 (io), 16 GNDINT (power), 17 VCCINT (power), 18 B32 (io), 19 B31 (io), 20 B30 (io), 21 B29 (io), 22 B28 (io), 23 B27 (io), 24 GNDIO (power), 25 B26 (io), 26 B25/TCK (io), 27 B24 (io), 28 B23 (io), 29 VCCIO (power), 30 GNDIO (power), 31 B21 (io), 32 B20/TDO (io), 33 B19 (io), 34 B18 (io), 35 B17 (io), 36 GNDINT (power), 37 INPUT/GCLK1 (in), 38 INPUT/OE1 (in), 39 INPUT/GCLRn (in), 40 INPUT/OE2/GCLK2 (in), 41 VCCINT (power), 42 A1 (io), 43 A2 (io), 44 A3 (io)

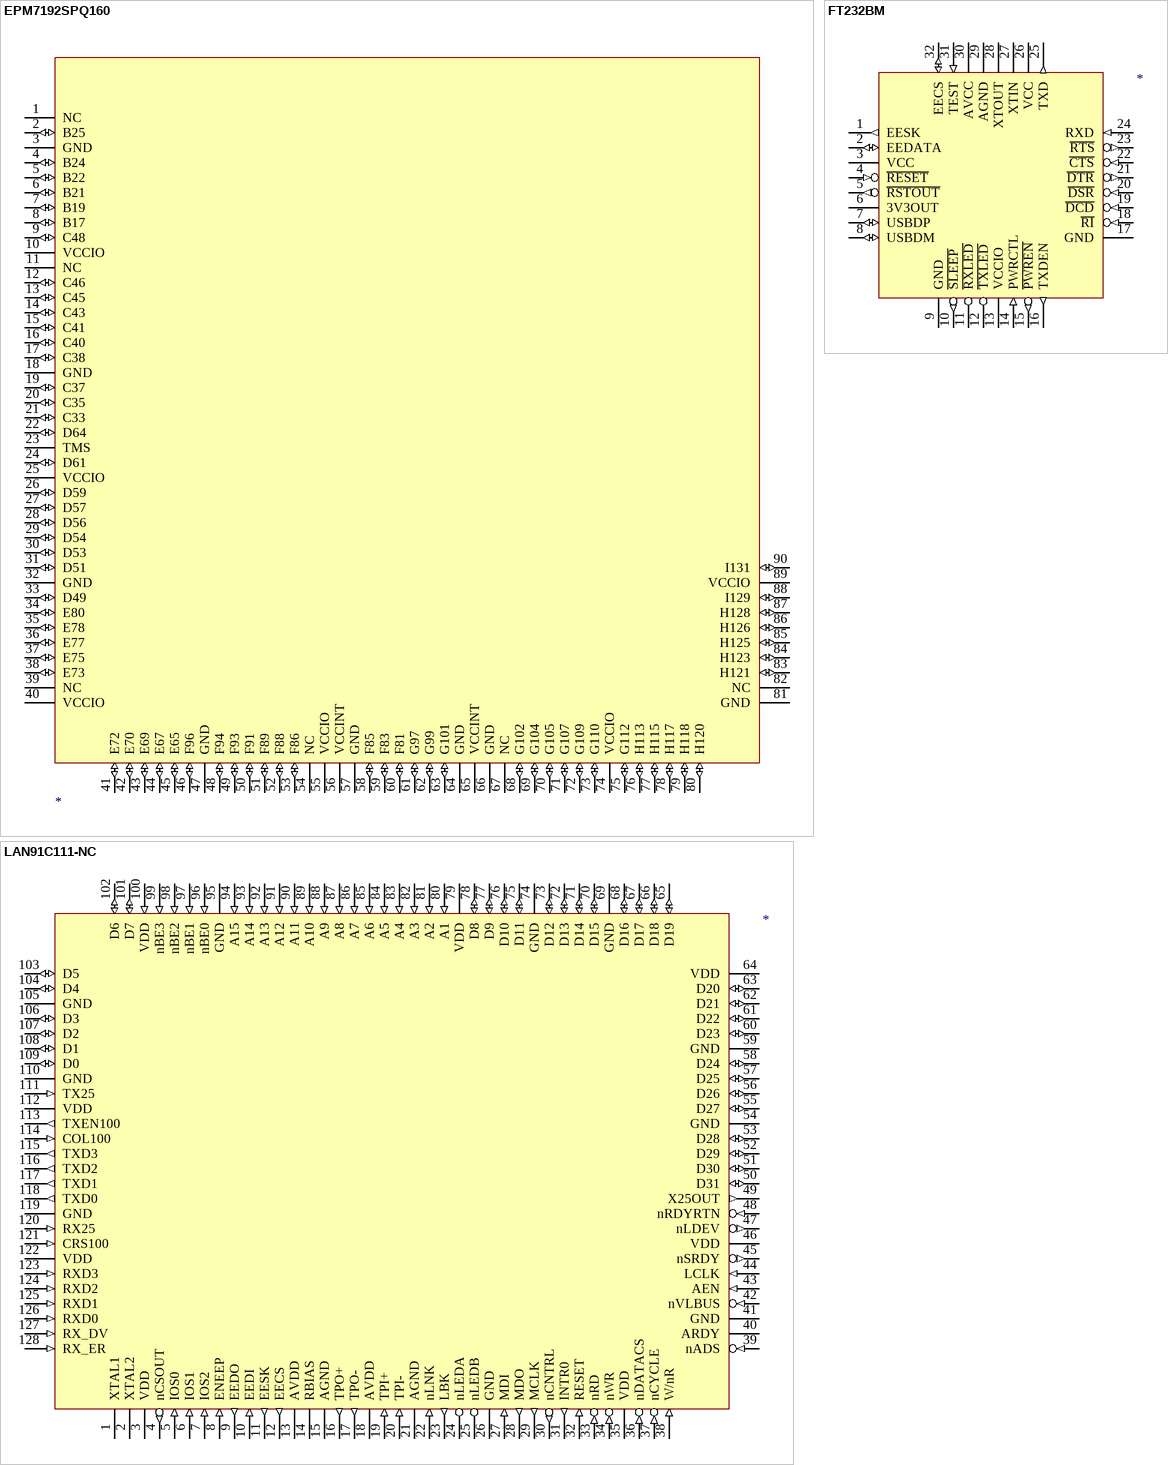
[diagram p3: symbols EPM7192SPQ160 to LAN91C111-NC]

## EPM7192SPQ160
designator ?
pins: 1 NC, 2 B25 (io), 3 GND (power), 4 B24 (io), 5 B22 (io), 6 B21 (io), 7 B19 (io), 8 B17 (io), 9 C48 (io), 10 VCCIO (power), 11 NC, 12 C46 (io), 13 C45 (io), 14 C43 (io), 15 C41 (io), 16 C40 (io), 17 C38 (io), 18 GND (power), 19 C37 (io), 20 C35 (io), 21 C33 (io), 22 D64 (io), 23 TMS, 24 D61 (io), 25 VCCIO (power), 26 D59 (io), 27 D57 (io), 28 D56 (io), 29 D54 (io), 30 D53 (io), 31 D51 (io), 32 GND (power), 33 D49 (io), 34 E80 (io), 35 E78 (io), 36 E77 (io), 37 E75 (io), 38 E73 (io), 39 NC, 40 VCCIO (power), 41 E72 (io), 42 E70 (io), 43 E69 (io), 44 E67 (io), 45 E65 (io), 46 F96 (io), 47 GND (power), 48 F94 (io), 49 F93 (io), 50 F91 (io), 51 F89 (io), 52 F88 (io), 53 F86 (io), 54 NC, 55 VCCIO (power), 56 VCCINT (power), 57 GND (power), 58 F85 (io), 59 F83 (io), 60 F81 (io), 61 G97 (io), 62 G99 (io), 63 G101 (io), 64 GND (power), 65 VCCINT (power), 66 GND (power), 67 NC, 68 G102 (io), 69 G104 (io), 70 G105 (io), 71 G107 (io), 72 G109 (io), 73 G110 (io), 74 VCCIO (power), 75 G112 (io), 76 H113 (io), 77 H115 (io), 78 H117 (io), 79 H118 (io), 80 H120 (io), 81 GND (power), 82 NC, 83 H121 (io), 84 H123 (io), 85 H125 (io), 86 H126 (io), 87 H128 (io), 88 I129 (io), 89 VCCIO (power), 90 I131 (io)

## FT232BM
designator ?
pins: 1 EESK (out), 2 EEDATA (io), 3 VCC (power), 4 ~{RESET} (in), 5 ~{RSTOUT} (out), 6 3V3OUT (power), 7 USBDP (io), 8 USBDM (io), 9 GND (power), 10 ~{SLEEP} (out), 11 ~{RXLED} (oc), 12 ~{TXLED} (oc), 13 VCCIO (power), 14 PWRCTL (in), 15 ~{PWREN} (out), 16 TXDEN (out), 17 GND (power), 18 ~{RI} (in), 19 ~{DCD} (in), 20 ~{DSR} (in), 21 ~{DTR} (out), 22 ~{CTS} (in), 23 ~{RTS} (out), 24 RXD (in), 25 TXD (out), 26 VCC (power), 27 XTIN, 28 XTOUT, 29 AGND (power), 30 AVCC (power), 31 TEST (in), 32 EECS (io)

## LAN91C111-NC
designator ?
pins: 1 XTAL1, 2 XTAL2, 3 VDD (power), 4 nCSOUT (out), 5 IOS0 (in), 6 IOS1 (in), 7 IOS2 (in), 8 ENEEP (in), 9 EEDO (out), 10 EEDI (in), 11 EESK (out), 12 EECS (out), 13 AVDD (power), 14 RBIAS, 15 AGND (power), 16 TPO+ (out), 17 TPO- (out), 18 AVDD (power), 19 TPI+ (in), 20 TPI- (in), 21 AGND (power), 22 nLNK (in), 23 LBK (out), 24 nLEDA (oc), 25 nLEDB (oc), 26 GND (power), 27 MDI (in), 28 MDO (out), 29 MCLK (out), 30 nCNTRL (out), 31 INTR0 (out), 32 RESET (in), 33 nRD (in), 34 nWR (in), 35 VDD (power), 36 nDATACS (in), 37 nCYCLE (in), 38 W/nR (in), 39 nADS (in), 40 ARDY (oc), 41 GND (power), 42 nVLBUS (in), 43 AEN (in), 44 LCLK (in), 45 nSRDY (out), 46 VDD (power), 47 nLDEV (out), 48 nRDYRTN (in), 49 X25OUT (out), 50 D31 (io), 51 D30 (io), 52 D29 (io), 53 D28 (io), 54 GND (power), 55 D27 (io), 56 D26 (io), 57 D25 (io), 58 D24 (io), 59 GND (power), 60 D23 (io), 61 D22 (io), 62 D21 (io), 63 D20 (io), 64 VDD (power), 65 D19 (io), 66 D18 (io), 67 D17 (io), 68 D16 (io), 69 GND (power), 70 D15 (io), 71 D14 (io), 72 D13 (io), 73 D12 (io), 74 GND (power), 75 D11 (io), 76 D10 (io), 77 D9 (io), 78 D8 (io), 79 VDD (power), 80 A1 (in), 81 A2 (in), 82 A3 (in), 83 A4 (in), 84 A5 (in), 85 A6 (in), 86 A7 (in), 87 A8 (in), 88 A9 (in), 89 A10 (in), 90 A11 (in), 91 A12 (in), 92 A13 (in), 93 A14 (in), 94 A15 (in), 95 GND (power), 96 nBE0 (in), 97 nBE1 (in), 98 nBE2 (in), 99 nBE3 (in), 100 VDD (in), 101 D7 (io), 102 D6 (io), 103 D5 (io), 104 D4 (io), 105 GND (power), 106 D3 (io), 107 D2 (io), 108 D1 (io), 109 D0 (io), 110 GND (power), 111 TX25 (in), 112 VDD (power), 113 TXEN100 (out), 114 COL100 (in), 115 TXD3 (out), 116 TXD2 (out), 117 TXD1 (out), 118 TXD0 (out), 119 GND (power), 120 RX25 (in), 121 CRS100 (in), 122 VDD (power), 123 RXD3 (in), 124 RXD2 (in), 125 RXD1 (in), 126 RXD0 (in), 127 RX_DV (in), 128 RX_ER (in)

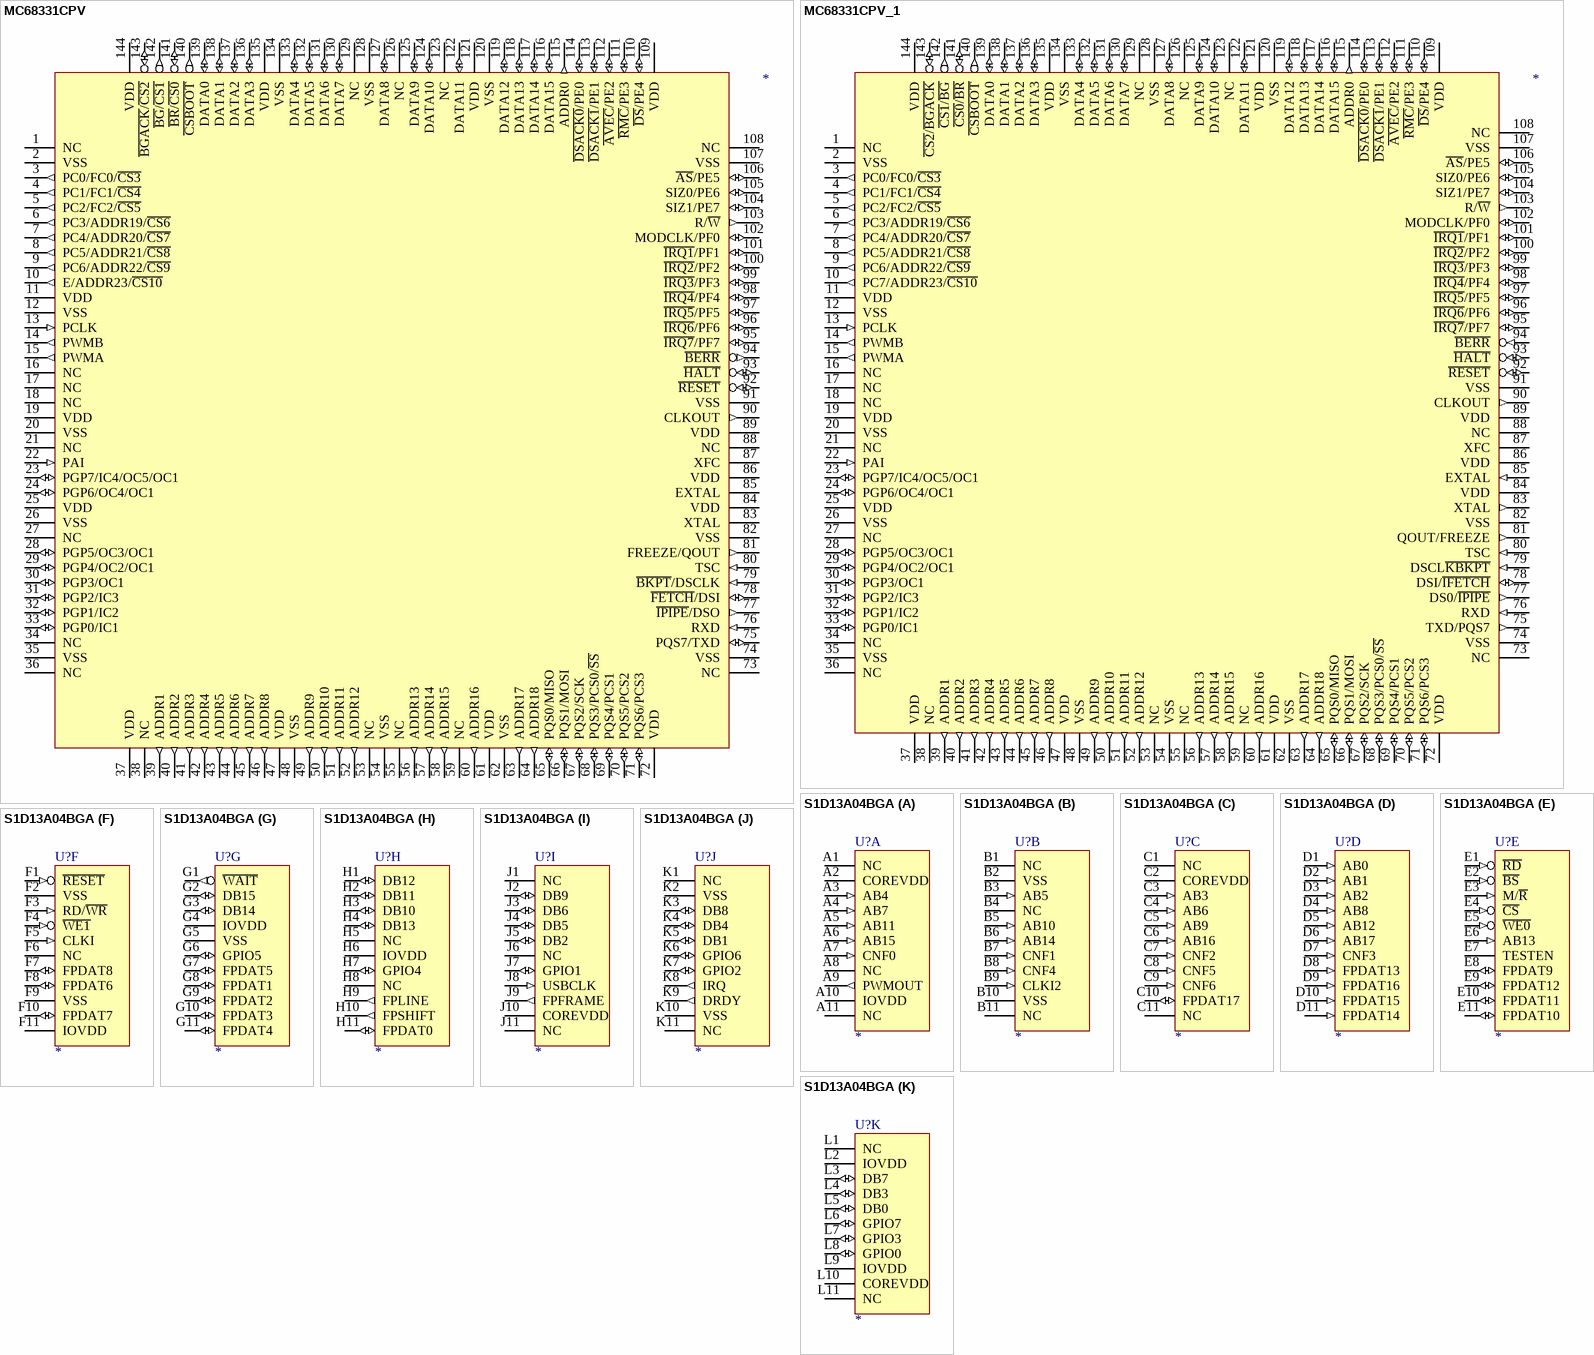
[diagram p4: symbols MC68331CPV to S1D13A04BGA]

## MC68331CPV
designator ?
pins: 1 NC, 2 VSS (power), 3 PC0/FC0/~{CS3} (out), 4 PC1/FC1/~{CS4} (out), 5 PC2/FC2/~{CS5} (out), 6 PC3/ADDR19/~{CS6} (out), 7 PC4/ADDR20/~{CS7} (out), 8 PC5/ADDR21/~{CS8} (out), 9 PC6/ADDR22/~{CS9} (out), 10 E/ADDR23/~{CS10} (out), 11 VDD (power), 12 VSS (power), 13 PCLK (in), 14 PWMB (out), 15 PWMA (out), 16 NC, 17 NC, 18 NC, 19 VDD (power), 20 VSS (power), 21 NC, 22 PAI (in), 23 PGP7/IC4/OC5/OC1 (io), 24 PGP6/OC4/OC1 (io), 25 VDD (power), 26 VSS (power), 27 NC, 28 PGP5/OC3/OC1 (io), 29 PGP4/OC2/OC1 (io), 30 PGP3/OC1 (io), 31 PGP2/IC3 (io), 32 PGP1/IC2 (io), 33 PGP0/IC1 (io), 34 NC, 35 VSS (power), 36 NC, 37 VDD (power), 38 NC, 39 ADDR1 (out), 40 ADDR2 (out), 41 ADDR3 (out), 42 ADDR4 (out), 43 ADDR5 (out), 44 ADDR6 (out), 45 ADDR7 (out), 46 ADDR8 (out), 47 VDD (power), 48 VSS (power), 49 ADDR9 (out), 50 ADDR10 (out), 51 ADDR11 (out), 52 ADDR12 (out), 53 NC, 54 VSS (power), 55 NC, 56 ADDR13 (out), 57 ADDR14 (out), 58 ADDR15 (out), 59 NC, 60 ADDR16 (out), 61 VDD (power), 62 VSS (power), 63 ADDR17 (out), 64 ADDR18 (out), 65 PQS0/MISO (io), 66 PQS1/MOSI (io), 67 PQS2/SCK (io), 68 PQS3/PCS0/~{SS} (io), 69 PQS4/PCS1 (io), 70 PQS5/PCS2 (io), 71 PQS6/PCS3 (io), 72 VDD (power), 73 NC, 74 VSS (power), 75 PQS7/TXD (io), 76 RXD (in), 77 ~{IPIPE}/DSO (out), 78 ~{FETCH}/DSI (io), 79 ~{BKPT}/DSCLK (in), 80 TSC (in), 81 FREEZE/QOUT (out), 82 VSS (power), 83 XTAL, 84 VDD (power), 85 EXTAL, 86 VDD (power), 87 XFC, 88 NC, 89 VDD (power), 90 CLKOUT (out), 91 VSS (power), 92 ~{RESET} (io), 93 ~{HALT} (io), 94 ~{BERR} (out), 95 ~{IRQ7}/PF7 (io), 96 ~{IRQ6}/PF6 (io), 97 ~{IRQ5}/PF5 (io), 98 ~{IRQ4}/PF4 (io), 99 ~{IRQ3}/PF3 (io), 100 ~{IRQ2}/PF2 (io), 101 ~{IRQ1}/PF1 (io), 102 MODCLK/PF0 (io), 103 R/~{W} (out), 104 SIZ1/PE7 (io), 105 SIZ0/PE6 (io), 106 ~{AS}/PE5 (io), 107 VSS (power), 108 NC, 109 VDD (power), 110 ~{DS}/PE4 (io), 111 ~{RMC}/PE3 (io), 112 ~{AVEC}/PE2 (io), 113 ~{DSACK1}/PE1 (io), 114 ~{DSACK0}/PE0 (io), 115 ADDR0 (out), 116 DATA15 (io), 117 DATA14 (io), 118 DATA13 (io), 119 DATA12 (io), 120 VSS (power), 121 VDD (power), 122 DATA11 (io), 123 NC, 124 DATA10 (io), 125 DATA9 (io), 126 NC, 127 DATA8 (io), 128 VSS (power), 129 NC, 130 DATA7 (io), 131 DATA6 (io), 132 DATA5 (io), 133 DATA4 (io), 134 VSS (power), 135 VDD (power), 136 DATA3 (io), 137 DATA2 (io), 138 DATA1 (io), 139 DATA0 (io), 140 ~{CSBOOT} (out), 141 ~{BR}/~{CS0} (io), 142 ~{BG}/~{CS1} (out), 143 ~{BGACK}/~{CS2} (io), 144 VDD (power)

## MC68331CPV_1
designator ?
pins: 1 NC, 2 VSS (power), 3 PC0/FC0/~{CS3} (out), 4 PC1/FC1/~{CS4} (out), 5 PC2/FC2/~{CS5} (out), 6 PC3/ADDR19/~{CS6} (out), 7 PC4/ADDR20/~{CS7} (out), 8 PC5/ADDR21/~{CS8} (out), 9 PC6/ADDR22/~{CS9} (out), 10 PC7/ADDR23/~{CS10} (out), 11 VDD (power), 12 VSS (power), 13 PCLK (in), 14 PWMB (out), 15 PWMA (out), 16 NC, 17 NC, 18 NC, 19 VDD (power), 20 VSS (power), 21 NC, 22 PAI (in), 23 PGP7/IC4/OC5/OC1 (io), 24 PGP6/OC4/OC1 (io), 25 VDD (power), 26 VSS (power), 27 NC, 28 PGP5/OC3/OC1 (io), 29 PGP4/OC2/OC1 (io), 30 PGP3/OC1 (io), 31 PGP2/IC3 (io), 32 PGP1/IC2 (io), 33 PGP0/IC1 (io), 34 NC, 35 VSS (power), 36 NC, 37 VDD (power), 38 NC, 39 ADDR1 (out), 40 ADDR2 (out), 41 ADDR3 (out), 42 ADDR4 (out), 43 ADDR5 (out), 44 ADDR6 (out), 45 ADDR7 (out), 46 ADDR8 (out), 47 VDD (power), 48 VSS (power), 49 ADDR9 (out), 50 ADDR10 (out), 51 ADDR11 (out), 52 ADDR12 (out), 53 NC, 54 VSS (power), 55 NC, 56 ADDR13 (out), 57 ADDR14 (out), 58 ADDR15 (out), 59 NC, 60 ADDR16 (out), 61 VDD (power), 62 VSS (power), 63 ADDR17 (out), 64 ADDR18 (out), 65 PQS0/MISO (io), 66 PQS1/MOSI (io), 67 PQS2/SCK (io), 68 PQS3/PCS0/~{SS} (io), 69 PQS4/PCS1 (io), 70 PQS5/PCS2 (io), 71 PQS6/PCS3 (io), 72 VDD (power), 73 NC, 74 VSS (power), 75 TXD/PQS7 (out), 76 RXD (in), 77 DS0/~{IPIPE} (out), 78 DSI/~{IFETCH} (io), 79 DSCL~{KBKPT} (in), 80 TSC (in), 81 QOUT/FREEZE (out), 82 VSS (power), 83 XTAL (out), 84 VDD (power), 85 EXTAL (in), 86 VDD (power), 87 XFC, 88 NC, 89 VDD (power), 90 CLKOUT (out), 91 VSS (power), 92 ~{RESET} (io), 93 ~{HALT} (io), 94 ~{BERR} (in), 95 ~{IRQ7}/PF7 (io), 96 ~{IRQ6}/PF6 (io), 97 ~{IRQ5}/PF5 (io), 98 ~{IRQ4}/PF4 (io), 99 ~{IRQ3}/PF3 (io), 100 ~{IRQ2}/PF2 (io), 101 ~{IRQ1}/PF1 (io), 102 MODCLK/PF0 (io), 103 R/~{W} (out), 104 SIZ1/PE7 (io), 105 SIZ0/PE6 (io), 106 ~{AS}/PE5 (io), 107 VSS (power), 108 NC, 109 VDD (power), 110 ~{DS}/PE4 (io), 111 ~{RMC}/PE3 (io), 112 ~{AVEC}/PE2 (io), 113 ~{DSACK1}/PE1 (io), 114 ~{DSACK0}/PE0 (io), 115 ADDR0 (out), 116 DATA15 (io), 117 DATA14 (io), 118 DATA13 (io), 119 DATA12 (io), 120 VSS (power), 121 VDD (power), 122 DATA11 (io), 123 NC, 124 DATA10 (io), 125 DATA9 (io), 126 NC, 127 DATA8 (io), 128 VSS (power), 129 NC, 130 DATA7 (io), 131 DATA6 (io), 132 DATA5 (io), 133 DATA4 (io), 134 VSS (power), 135 VDD (power), 136 DATA3 (io), 137 DATA2 (io), 138 DATA1 (io), 139 DATA0 (io), 140 ~{CSBOOT} (out), 141 ~{CS0}/~{BR} (io), 142 ~{CS1}/~{BG} (out), 143 ~{CS2}/~{BGACK} (io), 144 VDD (power)

## S1D13A04BGA
designator U?
footprint 11X11BGA20
part A pins: A1 NC, A2 COREVDD (power), A3 AB4 (in), A4 AB7 (in), A5 AB11 (in), A6 AB15 (in), A7 CNF0 (in), A8 NC, A9 PWMOUT (out), A10 IOVDD (power), A11 NC
part B pins: B1 NC, B2 VSS (power), B3 AB5 (in), B4 NC, B5 AB10 (in), B6 AB14 (in), B7 CNF1 (in), B8 CNF4 (in), B9 CLKI2 (in), B10 VSS (power), B11 NC
part C pins: C1 NC, C2 COREVDD (power), C3 AB3 (in), C4 AB6 (in), C5 AB9 (in), C6 AB16 (in), C7 CNF2 (in), C8 CNF5 (in), C9 CNF6 (in), C10 FPDAT17 (io), C11 NC
part D pins: D1 AB0 (in), D2 AB1 (in), D3 AB2 (in), D4 AB8 (in), D5 AB12 (in), D6 AB17 (in), D7 CNF3 (in), D8 FPDAT13 (in), D9 FPDAT16 (in), D10 FPDAT15 (in), D11 FPDAT14 (in)
part E pins: E1 ~{RD} (in), E2 ~{BS} (in), E3 M/~{R} (in), E4 ~{CS} (in), E5 ~{WE0} (in), E6 AB13 (in), E7 TESTEN, E8 FPDAT9 (io), E9 FPDAT12 (io), E10 FPDAT11 (io), E11 FPDAT10 (io)
part F pins: F1 ~{RESET} (in), F2 VSS (power), F3 RD/~{WR} (in), F4 ~{WE1} (in), F5 CLKI (in), F6 NC, F7 FPDAT8 (io), F8 FPDAT6 (io), F9 VSS (power), F10 FPDAT7 (io), F11 IOVDD (power)
part G pins: G1 ~{WAIT} (out), G2 DB15 (io), G3 DB14 (io), G4 IOVDD (power), G5 VSS (power), G6 GPIO5 (io), G7 FPDAT5 (io), G8 FPDAT1 (io), G9 FPDAT2 (io), G10 FPDAT3 (io), G11 FPDAT4 (io)
part H pins: H1 DB12 (io), H2 DB11 (io), H3 DB10 (io), H4 DB13 (io), H5 NC, H6 IOVDD (power), H7 GPIO4 (io), H8 NC, H9 FPLINE (out), H10 FPSHIFT (out), H11 FPDAT0 (io)
part I pins: J1 NC, J2 DB9 (io), J3 DB6 (io), J4 DB5 (io), J5 DB2 (io), J6 NC, J7 GPIO1 (io), J8 USBCLK (in), J9 FPFRAME (out), J10 COREVDD (power), J11 NC
part J pins: K1 NC, K2 VSS (power), K3 DB8 (io), K4 DB4 (io), K5 DB1 (io), K6 GPIO6 (io), K7 GPIO2 (io), K8 IRQ (out), K9 DRDY (out), K10 VSS (power), K11 NC
part K pins: L1 NC, L2 IOVDD (power), L3 DB7 (io), L4 DB3 (io), L5 DB0 (io), L6 GPIO7 (io), L7 GPIO3 (io), L8 GPIO0 (io), L9 IOVDD (power), L10 COREVDD (power), L11 NC

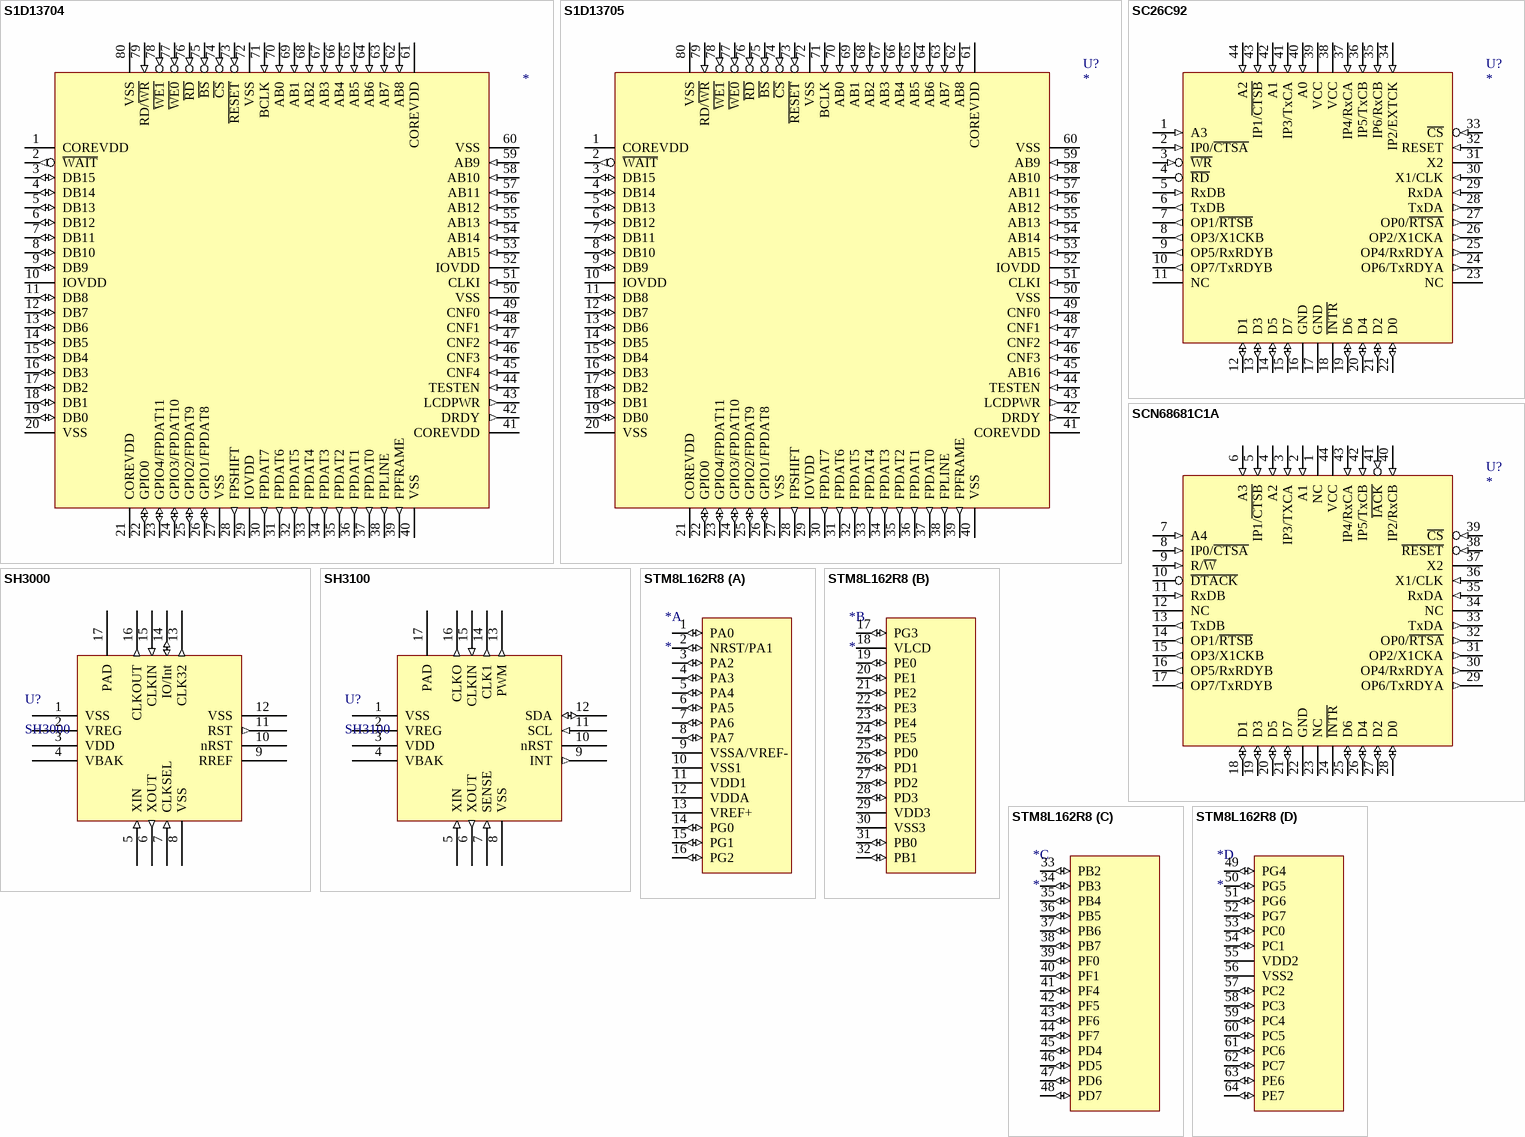
[diagram p5: symbols S1D13704 to STM8L162R8]

## S1D13704
designator ?
pins: 1 COREVDD (power), 2 ~{WAIT} (out), 3 DB15 (io), 4 DB14 (io), 5 DB13 (io), 6 DB12 (io), 7 DB11 (io), 8 DB10 (io), 9 DB9 (io), 10 IOVDD (power), 11 DB8 (io), 12 DB7 (io), 13 DB6 (io), 14 DB5 (io), 15 DB4 (io), 16 DB3 (io), 17 DB2 (io), 18 DB1 (io), 19 DB0 (io), 20 VSS (power), 21 COREVDD (power), 22 GPIO0 (io), 23 GPIO4/FPDAT11 (io), 24 GPIO3/FPDAT10 (io), 25 GPIO2/FPDAT9 (io), 26 GPIO1/FPDAT8 (io), 27 VSS (power), 28 FPSHIFT (out), 29 IOVDD (power), 30 FPDAT7 (out), 31 FPDAT6 (out), 32 FPDAT5 (out), 33 FPDAT4 (out), 34 FPDAT3 (out), 35 FPDAT2 (out), 36 FPDAT1 (out), 37 FPDAT0 (out), 38 FPLINE (out), 39 FPFRAME (out), 40 VSS (power), 41 COREVDD (power), 42 DRDY (out), 43 LCDPWR (out), 44 TESTEN (in), 45 CNF4 (in), 46 CNF3 (in), 47 CNF2 (in), 48 CNF1 (in), 49 CNF0 (in), 50 VSS (power), 51 CLKI (in), 52 IOVDD (power), 53 AB15 (in), 54 AB14 (in), 55 AB13 (in), 56 AB12 (in), 57 AB11 (in), 58 AB10 (in), 59 AB9 (in), 60 VSS (power), 61 COREVDD (power), 62 AB8 (in), 63 AB7 (in), 64 AB6 (in), 65 AB5 (in), 66 AB4 (in), 67 AB3 (in), 68 AB2 (in), 69 AB1 (in), 70 AB0 (in), 71 BCLK (in), 72 VSS (power), 73 ~{RESET} (in), 74 ~{CS} (in), 75 ~{BS} (in), 76 ~{RD} (in), 77 ~{WE0} (in), 78 ~{WE1} (in), 79 RD/~{WR} (in), 80 VSS (power)

## S1D13705
designator U?
footprint TQFP80
pins: 1 COREVDD (power), 2 ~{WAIT} (out), 3 DB15 (io), 4 DB14 (io), 5 DB13 (io), 6 DB12 (io), 7 DB11 (io), 8 DB10 (io), 9 DB9 (io), 10 IOVDD (power), 11 DB8 (io), 12 DB7 (io), 13 DB6 (io), 14 DB5 (io), 15 DB4 (io), 16 DB3 (io), 17 DB2 (io), 18 DB1 (io), 19 DB0 (io), 20 VSS (power), 21 COREVDD (power), 22 GPIO0 (io), 23 GPIO4/FPDAT11 (io), 24 GPIO3/FPDAT10 (io), 25 GPIO2/FPDAT9 (io), 26 GPIO1/FPDAT8 (io), 27 VSS (power), 28 FPSHIFT (out), 29 IOVDD (power), 30 FPDAT7 (out), 31 FPDAT6 (out), 32 FPDAT5 (out), 33 FPDAT4 (out), 34 FPDAT3 (out), 35 FPDAT2 (out), 36 FPDAT1 (out), 37 FPDAT0 (out), 38 FPLINE (out), 39 FPFRAME (out), 40 VSS (power), 41 COREVDD (power), 42 DRDY (out), 43 LCDPWR (out), 44 TESTEN (in), 45 AB16 (in), 46 CNF3 (in), 47 CNF2 (in), 48 CNF1 (in), 49 CNF0 (in), 50 VSS (power), 51 CLKI (in), 52 IOVDD (power), 53 AB15 (in), 54 AB14 (in), 55 AB13 (in), 56 AB12 (in), 57 AB11 (in), 58 AB10 (in), 59 AB9 (in), 60 VSS (power), 61 COREVDD (power), 62 AB8 (in), 63 AB7 (in), 64 AB6 (in), 65 AB5 (in), 66 AB4 (in), 67 AB3 (in), 68 AB2 (in), 69 AB1 (in), 70 AB0 (in), 71 BCLK (in), 72 VSS (power), 73 ~{RESET} (in), 74 ~{CS} (in), 75 ~{BS} (in), 76 ~{RD} (in), 77 ~{WE0} (in), 78 ~{WE1} (in), 79 RD/~{WR} (in), 80 VSS (power)

## SC26C92
designator U?
footprint PQFP44
pins: 1 A3 (in), 2 IP0/~{CTSA} (in), 3 ~{WR} (in), 4 ~{RD} (hiz), 5 RxDB (in), 6 TxDB (out), 7 OP1/~{RTSB} (out), 8 OP3/X1CKB (out), 9 OP5/RxRDYB (out), 10 OP7/TxRDYB (out), 11 NC, 12 D1 (io), 13 D3 (io), 14 D5 (io), 15 D7 (io), 16 GND (power), 17 GND (power), 18 ~{INTR} (oc), 19 D6 (io), 20 D4 (io), 21 D2 (io), 22 D0 (io), 23 NC, 24 OP6/TxRDYA (out), 25 OP4/RxRDYA (out), 26 OP2/X1CKA (out), 27 OP0/~{RTSA} (out), 28 TxDA (out), 29 RxDA (in), 30 X1/CLK (in), 31 X2, 32 RESET (in), 33 ~{CS} (in), 34 IP2/EXTCK (in), 35 IP6/RxCB (in), 36 IP5/TxCB (in), 37 IP4/RxCA (in), 38 VCC (power), 39 VCC (power), 40 A0 (in), 41 IP3/TxCA (in), 42 A1 (in), 43 IP1/~{CTSB} (in), 44 A2 (in)

## SCN68681C1A
designator U?
footprint PLCC44
pins: 1 NC, 2 A1 (in), 3 IP3/TXCA (in), 4 A2 (in), 5 IP1/~{CTSB} (in), 6 A3 (in), 7 A4 (in), 8 IP0/~{CTSA} (in), 9 R/~{W} (in), 10 ~{DTACK} (hiz), 11 RxDB (in), 12 NC, 13 TxDB (out), 14 OP1/~{RTSB} (out), 15 OP3/X1CKB (out), 16 OP5/RxRDYB (out), 17 OP7/TxRDYB (out), 18 D1 (io), 19 D3 (io), 20 D5 (io), 21 D7 (io), 22 GND (power), 23 NC, 24 ~{INTR} (oc), 25 D6 (io), 26 D4 (io), 27 D2 (io), 28 D0 (io), 29 OP6/TxRDYA (out), 30 OP4/RxRDYA (out), 31 OP2/X1CKA (out), 32 OP0/~{RTSA} (out), 33 TxDA (out), 34 NC, 35 RxDA (in), 36 X1/CLK (in), 37 X2, 38 ~{RESET} (in), 39 ~{CS} (in), 40 IP2/RxCB (in), 41 ~{IACK} (in), 42 IP5/TxCB (in), 43 IP4/RxCA (in), 44 VCC (power)

## SH3000
designator U?
PARTNO: SH3000IML TRT; VALUE: SH3000; DK: ----
pins: 1 VSS (power) "Ground", 2 VREG (power) "Regulated Output", 3 VDD (power) "Regulated Input", 4 VBAK (power) "Input Backup", 5 XIN (in) "Crystal In", 6 XOUT (out) "Crystal Out", 7 CLKSEL (in) "32Khz select", 8 VSS (power) "GND", 9 RREF "32Khz Adjust", 10 nRST (oc) "Active Low Reset", 11 RST (out) "Active High Reset", 12 VSS (power) "GND", 13 CLK32 (out) "32Khz Out", 14 IO/Int (io) "Serial Communications", 15 CLKIN (in) "Clock Detect", 16 CLKOUT (out) "High Frequenct Clock Out", 17 PAD (power) "Heat Sink"

## SH3100
designator U?
PARTNO: SH3100IML TRT; VALUE: SH3100; DK: ----
pins: 1 VSS (power) "Ground", 2 VREG (power) "Regulated Output", 3 VDD (power) "Regulated Input", 4 VBAK (power) "Input Backup", 5 XIN (in) "Crystal In", 6 XOUT (out) "Crystal Out", 7 SENSE (in) "Speed Feedback", 8 VSS (power) "GND", 9 INT (out) "Interrupt Output", 10 nRST (oc) "Active Low Reset", 11 SCL (in) "I2C Clock In", 12 SDA (io) "I2C Data", 13 PWM (out) "PWM Out", 14 CLK1 (out) "Secondary Clock Out", 15 CLKIN (in) "Clock Detect", 16 CLKO (out) "Primary Clock Out", 17 PAD (power) "HeatSink"

## STM8L162R8
designator *
part A pins: 1 PA0 (io) "I/O Pin", 2 NRST/PA1 (io) "I/O Pin", 3 PA2 (io) "I/O Pin", 4 PA3 (io) "I/O Pin", 5 PA4 (io) "I/O Pin", 6 PA5 (io) "I/O Pin", 7 PA6 (io) "I/O Pin", 8 PA7 (io) "I/O Pin", 9 VSSA/VREF- (power), 10 VSS1 (power), 11 VDD1 (power), 12 VDDA (power), 13 VREF+ (power), 14 PG0 (io) "I/O Pin", 15 PG1 (io) "I/O Pin", 16 PG2 (io) "I/O Pin"
part B pins: 17 PG3 (io) "I/O Pin", 18 VLCD (power), 19 PE0 (io) "I/O Pin", 20 PE1 (io) "I/O Pin", 21 PE2 (io) "I/O Pin", 22 PE3 (io) "I/O Pin", 23 PE4 (io) "I/O Pin", 24 PE5 (io) "I/O Pin", 25 PD0 (io) "I/O Pin", 26 PD1 (io) "I/O Pin", 27 PD2 (io) "I/O Pin", 28 PD3 (io) "I/O Pin", 29 VDD3 (power), 30 VSS3 (power), 31 PB0 (io) "I/O Pin", 32 PB1 (io) "I/O Pin"
part C pins: 33 PB2 (io) "I/O Pin", 34 PB3 (io) "I/O Pin", 35 PB4 (io) "I/O Pin", 36 PB5 (io) "I/O Pin", 37 PB6 (io) "I/O Pin", 38 PB7 (io) "I/O Pin", 39 PF0 (io) "I/O Pin", 40 PF1 (io) "I/O Pin", 41 PF4 (io) "I/O Pin", 42 PF5 (io) "I/O Pin", 43 PF6 (io) "I/O Pin", 44 PF7 (io) "I/O Pin", 45 PD4 (io) "I/O Pin", 46 PD5 (io) "I/O Pin", 47 PD6 (io) "I/O Pin", 48 PD7 (io) "I/O Pin"
part D pins: 49 PG4 (io) "I/O Pin", 50 PG5 (io) "I/O Pin", 51 PG6 (io) "I/O Pin", 52 PG7 (io) "I/O Pin", 53 PC0 (io) "I/O Pin", 54 PC1 (io) "I/O Pin", 55 VDD2 (power), 56 VSS2 (power), 57 PC2 (io) "I/O Pin", 58 PC3 (io) "I/O Pin", 59 PC4 (io) "I/O Pin", 60 PC5 (io) "I/O Pin", 61 PC6 (io) "I/O Pin", 62 PC7 (io) "I/O Pin", 63 PE6 (io) "I/O Pin", 64 PE7 (io) "I/O Pin"

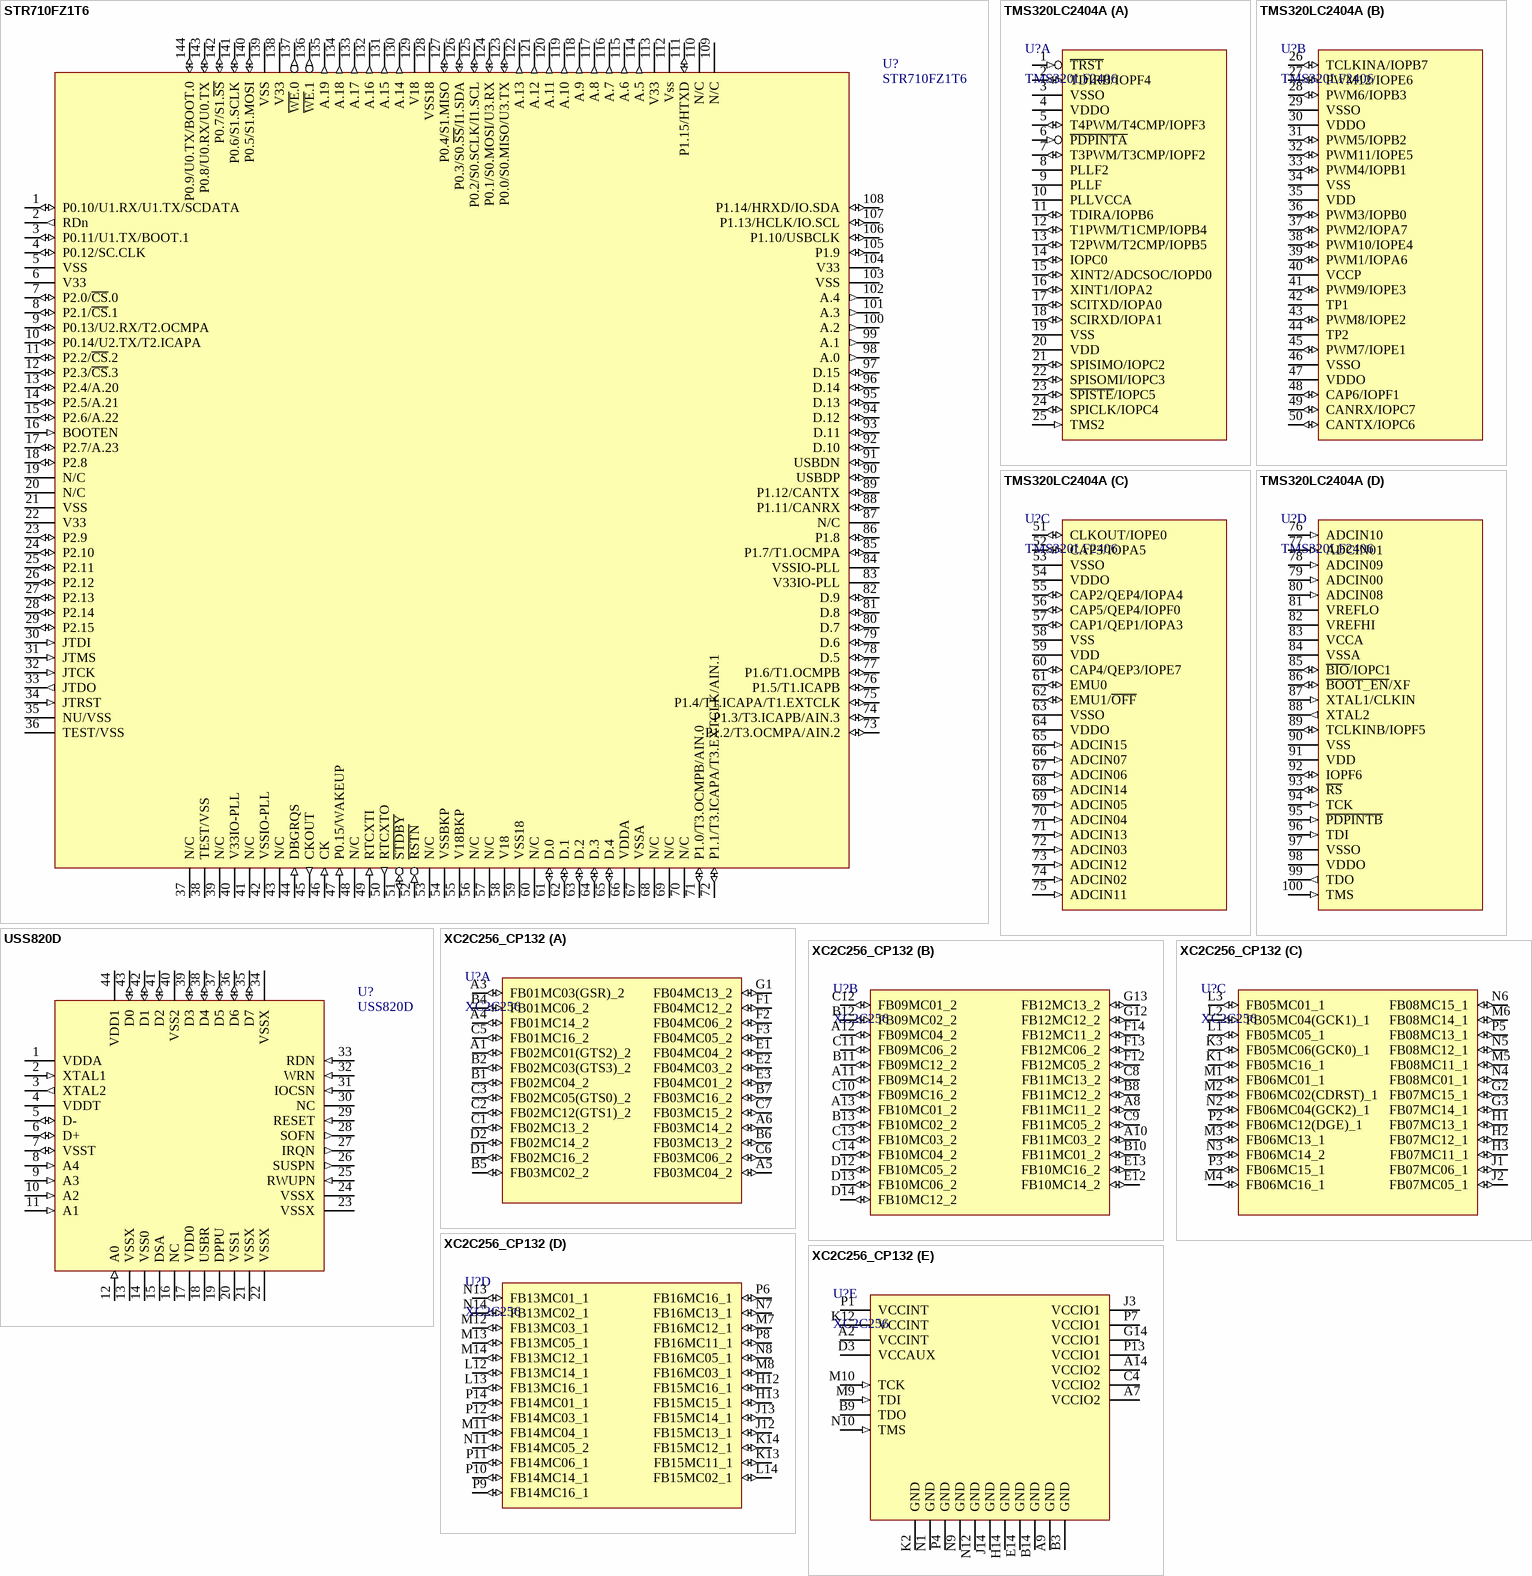
[diagram p6: symbols STR710FZ1T6 to XC2C256_CP132]

## STR710FZ1T6
designator U?
ST ARM Processor; PARTNO: CHP-STR710; VALUE: STR710FZ1T6
footprint TQFP144_030305 (SMT FP)
pins: 1 P0.10/U1.RX/U1.TX/SCDATA (io), 2 RDn (out), 3 P0.11/U1.TX/BOOT.1 (io), 4 P0.12/SC.CLK (io), 5 VSS (power), 6 V33 (power), 7 P2.0/~{CS}.0 (io), 8 P2.1/~{CS}.1 (io), 9 P0.13/U2.RX/T2.OCMPA (io), 10 P0.14/U2.TX/T2.ICAPA (io), 11 P2.2/~{CS}.2 (io), 12 P2.3/~{CS}.3 (io), 13 P2.4/A.20 (io), 14 P2.5/A.21 (io), 15 P2.6/A.22 (io), 16 BOOTEN (in), 17 P2.7/A.23 (io), 18 P2.8 (io), 19 N/C, 20 N/C, 21 VSS (power), 22 V33 (power), 23 P2.9 (io), 24 P2.10 (io), 25 P2.11 (io), 26 P2.12 (io), 27 P2.13 (io), 28 P2.14 (io), 29 P2.15 (io), 30 JTDI (in), 31 JTMS (in), 32 JTCK (in), 33 JTDO (out), 34 JTRST (in), 35 NU/VSS (power), 36 TEST/VSS (power), 37 N/C, 38 TEST/VSS, 39 N/C, 40 V33IO-PLL (power), 41 N/C, 42 VSSIO-PLL (power), 43 N/C, 44 DBGRQS (in), 45 CKOUT (out), 46 CK (in), 47 P0.15/WAKEUP (in), 48 N/C, 49 RTCXTI (in), 50 RTCXTO (out), 51 ~{STDBY} (io), 52 ~{RSTN} (in), 53 N/C, 54 VSSBKP (power), 55 V18BKP (power), 56 N/C, 57 N/C, 58 V18 (power), 59 VSS18 (power), 60 N/C, 61 D.0 (io), 62 D.1 (io), 63 D.2 (io), 64 D.3 (io), 65 D.4 (io), 66 VDDA (power), 67 VSSA (power), 68 N/C, 69 N/C, 70 N/C, 71 P1.0/T3.OCMPB/AIN.0 (io), 72 P1.1/T3.ICAPA/T3.EXTCLK/AIN.1 (io), 73 P1.2/T3.OCMPA/AIN.2 (io), 74 P1.3/T3.ICAPB/AIN.3 (io), 75 P1.4/T1.ICAPA/T1.EXTCLK (io), 76 P1.5/T1.ICAPB (io), 77 P1.6/T1.OCMPB (io), 78 D.5 (io), 79 D.6 (io), 80 D.7 (io), 81 D.8 (io), 82 D.9 (io), 83 V33IO-PLL (power), 84 VSSIO-PLL (power), 85 P1.7/T1.OCMPA (io), 86 P1.8 (io), 87 N/C, 88 P1.11/CANRX (io), 89 P1.12/CANTX (io), 90 USBDP (io), 91 USBDN (io), 92 D.10 (io), 93 D.11 (io), 94 D.12 (io), 95 D.13 (io), 96 D.14 (io), 97 D.15 (io), 98 A.0 (out), 99 A.1 (out), 100 A.2 (out), 101 A.3 (out), 102 A.4 (out), 103 VSS (power), 104 V33 (power), 105 P1.9 (io), 106 P1.10/USBCLK (io), 107 P1.13/HCLK/IO.SCL (io), 108 P1.14/HRXD/IO.SDA (io), 109 N/C, 110 N/C, 111 P1.15/HTXD (io), 112 Vss (power), 113 V33 (power), 114 A.5 (out), 115 A.6 (out), 116 A.7 (out), 117 A.8 (out), 118 A.9 (out), 119 A.10 (out), 120 A.11 (out), 121 A.12 (out), 122 A.13 (out), 123 P0.0/S0.MISO/U3.TX (io), 124 P0.1/S0.MOSI/U3.RX (io), 125 P0.2/S0.SCLK/I1.SCL (io), 126 P0.3/S0.~{SS}/I1.SDA (io), 127 P0.4/S1.MISO (io), 128 VSS18, 129 V18, 130 A.14 (out), 131 A.15 (out), 132 A.16 (out), 133 A.17 (out), 134 A.18 (out), 135 A.19 (out), 136 ~{WE}.1 (out), 137 ~{WE}.0 (out), 138 V33 (power), 139 VSS (power), 140 P0.5/S1.MOSI (io), 141 P0.6/S1.SCLK (io), 142 P0.7/S1.~{SS} (io), 143 P0.8/U0.RX/U0.TX (io), 144 P0.9/U0.TX/BOOT.0 (io)

## TMS320LC2404A
designator U?, comment TMS320LF2406
PARTNO: TMS320LF2406APZS; MAN: TI; DK: 296-12547-ND; VALUE: TMS320LF2406
footprint TQFP100_030305 (SM FP)
part A pins: 1 ~{TRST} (in), 2 TDIRB/IOPF4 (io), 3 VSSO (power), 4 VDDO (power), 5 T4PWM/T4CMP/IOPF3 (io), 6 ~{PDPINTA} (in), 7 T3PWM/T3CMP/IOPF2 (io), 8 PLLF2, 9 PLLF, 10 PLLVCCA (power), 11 TDIRA/IOPB6 (io), 12 T1PWM/T1CMP/IOPB4 (io), 13 T2PWM/T2CMP/IOPB5 (io), 14 IOPC0 (io), 15 XINT2/ADCSOC/IOPD0 (io), 16 XINT1/IOPA2 (io), 17 SCITXD/IOPA0 (io), 18 SCIRXD/IOPA1 (io), 19 VSS (power), 20 VDD (power), 21 SPISIMO/IOPC2 (io), 22 SPISOMI/IOPC3 (io), 23 ~{SPISTE}/IOPC5 (io), 24 SPICLK/IOPC4 (io), 25 TMS2 (in)
part B pins: 26 TCLKINA/IOPB7 (io), 27 PWM12/IOPE6 (io), 28 PWM6/IOPB3 (io), 29 VSSO (power), 30 VDDO (power), 31 PWM5/IOPB2 (io), 32 PWM11/IOPE5 (io), 33 PWM4/IOPB1 (io), 34 VSS (power), 35 VDD (power), 36 PWM3/IOPB0 (io), 37 PWM2/IOPA7 (io), 38 PWM10/IOPE4 (io), 39 PWM1/IOPA6 (io), 40 VCCP (power), 41 PWM9/IOPE3 (io), 42 TP1, 43 PWM8/IOPE2 (io), 44 TP2, 45 PWM7/IOPE1 (io), 46 VSSO (power), 47 VDDO (power), 48 CAP6/IOPF1 (io), 49 CANRX/IOPC7 (io), 50 CANTX/IOPC6 (io)
part C pins: 51 CLKOUT/IOPE0 (io), 52 CAP3/IOPA5 (io), 53 VSSO (power), 54 VDDO (power), 55 CAP2/QEP4/IOPA4 (io), 56 CAP5/QEP4/IOPF0 (io), 57 CAP1/QEP1/IOPA3 (io), 58 VSS (power), 59 VDD (power), 60 CAP4/QEP3/IOPE7 (io), 61 EMU0 (io), 62 EMU1/~{OFF} (io), 63 VSSO (power), 64 VDDO (power), 65 ADCIN15 (in), 66 ADCIN07 (in), 67 ADCIN06 (in), 68 ADCIN14 (in), 69 ADCIN05 (in), 70 ADCIN04 (in), 71 ADCIN13 (in), 72 ADCIN03 (in), 73 ADCIN12 (in), 74 ADCIN02 (in), 75 ADCIN11 (in)
part D pins: 76 ADCIN10 (in), 77 ADCIN01 (in), 78 ADCIN09 (in), 79 ADCIN00 (in), 80 ADCIN08 (in), 81 VREFLO (power), 82 VREFHI (power), 83 VCCA (power), 84 VSSA (power), 85 ~{BIO}/IOPC1 (io), 86 ~{BOOT_EN}/XF (io), 87 XTAL1/CLKIN (in), 88 XTAL2 (out), 89 TCLKINB/IOPF5 (io), 90 VSS (power), 91 VDD (power), 92 IOPF6 (io), 93 ~{RS} (io), 94 TCK (in), 95 ~{PDPINTB} (in), 96 TDI (in), 97 VSSO (power), 98 VDDO (power), 99 TDO (out), 100 TMS (in)

## USS820D
designator U?
PARTNO: USS820D; VALUE: USS820D
pins: 1 VDDA (power), 2 XTAL1 (in), 3 XTAL2 (out), 4 VDDT (power), 5 D- (io), 6 D+ (io), 7 VSST (io), 8 A4 (in), 9 A3 (in), 10 A2 (in), 11 A1 (in), 12 A0 (in), 13 VSSX (power), 14 VSS0 (power), 15 DSA (hiz), 16 NC, 17 VDD0 (power), 18 USBR (hiz), 19 DPPU (oc), 20 VSS1 (power), 21 VSSX (power), 22 VSSX (power), 23 VSSX (power), 24 VSSX (power), 25 RWUPN (in), 26 SUSPN (out), 27 IRQN (out), 28 SOFN (out), 29 RESET (in), 30 NC, 31 IOCSN (in), 32 WRN (in), 33 RDN (in), 34 VSSX (power), 35 D7 (io), 36 D6 (io), 37 D5 (io), 38 D4 (io), 39 D3 (io), 40 VSS2 (power), 41 D2 (io), 42 D1 (io), 43 D0 (io), 44 VDD1 (power)